# Altium integrated library Altera APEX 20K.IntLib: 93 symbols (part 4 of 14)
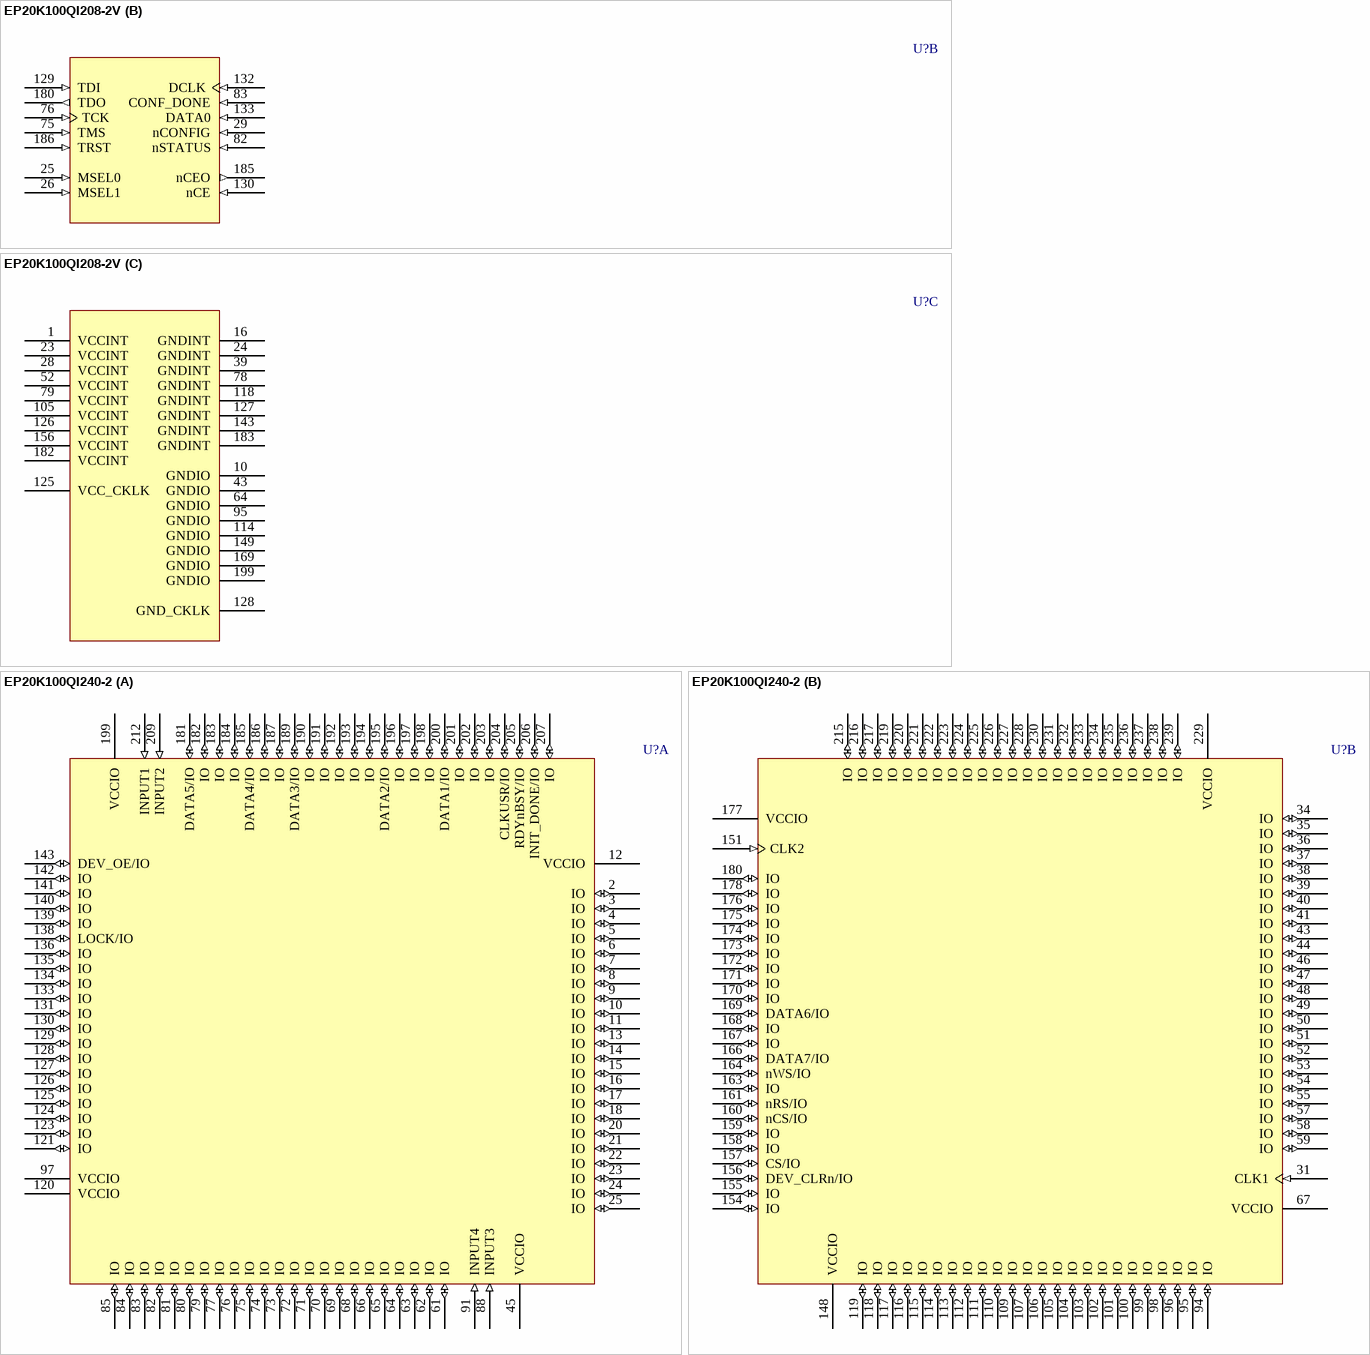
[diagram p205: symbols EP20K100QI208-2V to EP20K100QI240-2]

## EP20K100QI208-2V
designator U?
APEX 20K100  PLD with 5 V tolerant inputs, 208-Pin PQFP, Industrial Grade, Speed Grade 2; ComponentAvailability: Last order accepted - 22-Jul-2005; Published: 17-Jul-2002; LatestRevisionDate: 13-Apr-2006; LatestRevisionNote: IPC-7351 Footprint Added.; DatasheetVersion: ver5.1, Mar-2004; PackageVersion: ver15.4, Dec-2008; PackageReference: PQFP208; Publisher: Altium Limited; PackageDescription: 208-Pin Plastic Quad Flat Pack (PQFP208) - Wire Bond; Code_JEDEC: MS-029-FA-1; ComponentLink1Description: Manufacturer Link; ComponentLink1URL: http://www.altera.com/products/devices/apex/apx-index.html; ComponentLink2Description: Datasheet; ComponentLink2URL: http://www.altera.com/literature/ds/apex.pdf; ComponentLink3Description: Discontinuation Notice; ComponentLink3URL: http://www.altera.com/literature/pcn/pdn0401.pdf
footprint PQFP208_N (Shrink QFP, 208-Leads, Body 28x28mm, Pitch 0.5mm, IPC Medium Density)
footprint PQFP208_L (Shrink QFP, 208-Leads, Body 28x28mm, Pitch 0.5mm, IPC High Density)
footprint PQFP208_M (Shrink QFP, 208-Leads, Body 28x28mm, Pitch 0.5mm, IPC Low Density)
3D model EP20K100-PQFP208 (208-Pin Plastic Quad Flat Pack (PQFP208) - Wire Bond)
part A pins: 2 IO (io), 3 IO (io), 4 IO (io), 5 IO (io), 6 IO (io), 7 IO (io), 8 VCCIO (power), 9 IO (io), 11 IO (io), 12 IO (io), 13 IO (io), 14 IO (io), 15 IO (io), 17 IO (io), 18 IO (io), 19 IO (io), 20 IO (io), 21 IO (io), 22 IO (io), 27 CLK1 (in), 30 IO (io), 31 IO (io), 32 IO (io), 33 IO (io), 34 IO (io), 35 IO (io), 36 IO (io), 37 IO (io), 38 IO (io), 40 IO (io), 41 IO (io), 42 IO (io), 44 IO (io), 45 IO (io), 46 IO (io), 47 IO (io), 48 IO (io), 49 IO (io), 50 IO (io), 51 IO (io), 53 VCCIO (power), 54 IO (io), 55 IO (io), 56 IO (io), 57 IO (io), 58 IO (io), 59 IO (io), 60 IO (io), 61 IO (io), 62 IO (io), 63 IO (io), 65 IO (io), 66 IO (io), 67 IO (io), 68 IO (io), 69 IO (io), 70 IO (io), 71 IO (io), 72 IO (io), 73 IO (io), 74 IO (io), 77 INPUT3 (in), 80 VCCIO (power), 81 INPUT4 (in), 84 IO (io), 85 IO (io), 86 VCCIO (power), 87 IO (io), 88 IO (io), 89 IO (io), 90 IO (io), 91 IO (io), 92 IO (io), 93 IO (io), 94 IO (io), 96 IO (io), 97 IO (io), 98 IO (io), 99 IO (io), 100 IO (io), 101 IO (io), 102 IO (io), 103 IO (io), 104 IO (io), 106 IO (io), 107 IO (io), 108 IO (io), 109 IO (io), 110 IO (io), 111 IO (io), 112 IO (io), 113 IO (io), 115 IO (io), 116 IO (io), 117 IO (io), 119 LOCK/IO (io), 120 IO (io), 121 IO (io), 122 IO (io), 123 IO (io), 124 DEV_OE/IO (io), 131 CLK2 (in), 134 IO (io), 135 IO (io), 136 VCCIO (power), 137 DEV_CLRn/IO (io), 138 CS/IO (io), 139 IO (io), 140 IO (io), 141 nCS/IO (io), 142 nRS/IO (io), 144 IO (io), 145 nWS/IO (io), 146 DATA7/IO (io), 147 IO (io), 148 IO (io), 150 DATA6/IO (io), 151 IO (io), 152 IO (io), 153 IO (io), 154 IO (io), 155 IO (io), 157 DATA5/IO (io), 158 IO (io), 159 IO (io), 160 DATA4/IO (io), 161 IO (io), 162 IO (io), 163 DATA3/IO (io), 164 IO (io), 165 IO (io), 166 IO (io), 167 IO (io), 168 DATA2/IO (io), 170 IO (io), 171 IO (io), 172 VCCIO (power), 173 DATA1/IO (io), 174 IO (io), 175 IO (io), 176 CLKUSR/IO (io), 177 RDYnBSY/IO (io), 178 INIT_DONE/IO (io), 179 IO (io), 181 INPUT2 (in), 184 INPUT1 (in), 187 IO (io), 188 IO (io), 189 VCCIO (power), 190 IO (io), 191 IO (io), 192 IO (io), 193 IO (io), 194 IO (io), 195 IO (io), 196 IO (io), 197 IO (io), 198 IO (io), 200 IO (io), 201 IO (io), 202 IO (io), 203 IO (io), 204 IO (io), 205 IO (io), 206 IO (io), 207 IO (io), 208 VCCIO (power)
part B pins: 25 MSEL0 (in), 26 MSEL1 (in), 29 nCONFIG (in), 75 TMS (in), 76 TCK (in), 82 nSTATUS (in), 83 CONF_DONE (in), 129 TDI (in), 130 nCE (in), 132 DCLK (in), 133 DATA0 (in), 180 TDO (out), 185 nCEO (out), 186 TRST (in)
part C pins: 1 VCCINT (power), 10 GNDIO (power), 16 GNDINT (power), 23 VCCINT (power), 24 GNDINT (power), 28 VCCINT (power), 39 GNDINT (power), 43 GNDIO (power), 52 VCCINT (power), 64 GNDIO (power), 78 GNDINT (power), 79 VCCINT (power), 95 GNDIO (power), 105 VCCINT (power), 114 GNDIO (power), 118 GNDINT (power), 125 VCC_CKLK (power), 126 VCCINT (power), 127 GNDINT (power), 128 GND_CKLK (power), 143 GNDINT (power), 149 GNDIO (power), 156 VCCINT (power), 169 GNDIO (power), 182 VCCINT (power), 183 GNDINT (power), 199 GNDIO (power)

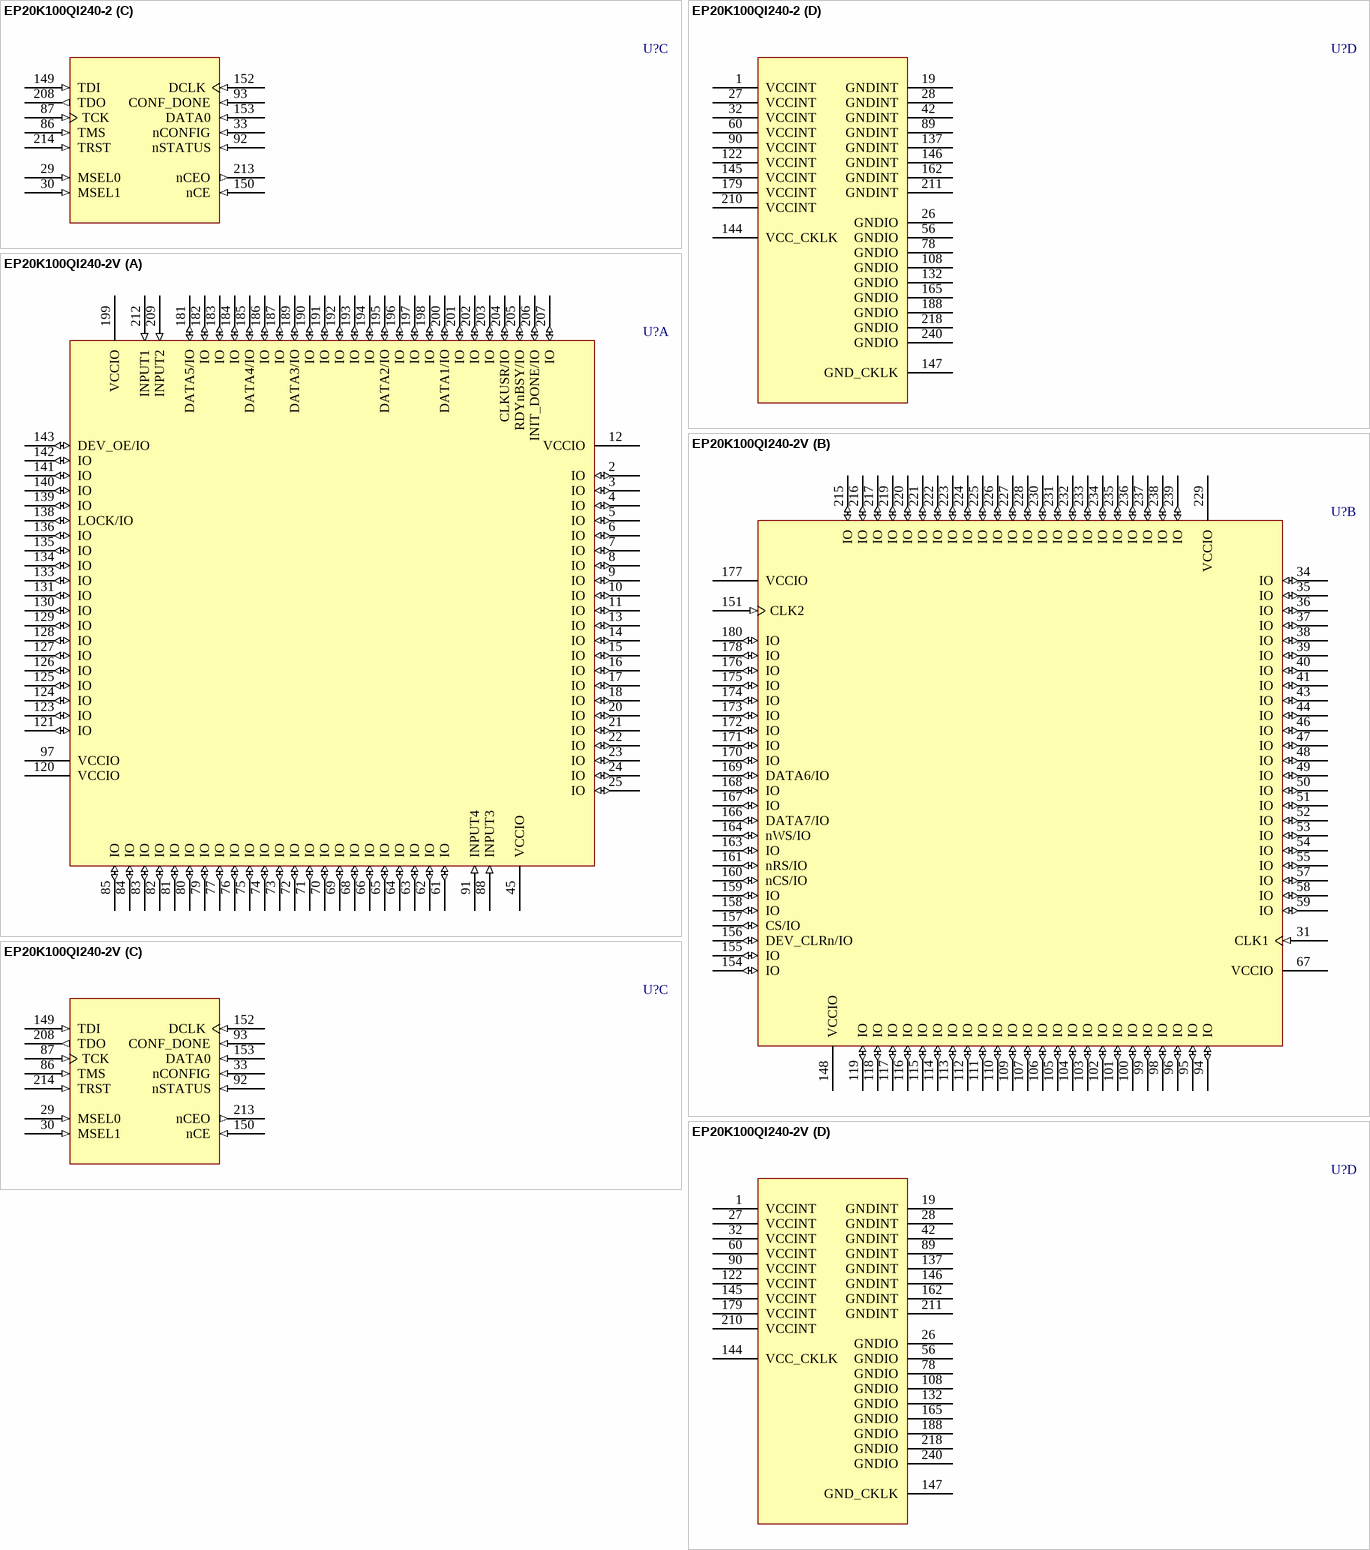
[diagram p41: symbols EP20K100QI240-2 to EP20K100QI240-2V]

## EP20K100QI240-2
designator U?
APEX 20K100 PLD, 240-Pin PQFP, Industrial Grade, Speed Grade 2; Published: 17-Jul-2002; LatestRevisionDate: 13-Apr-2006; LatestRevisionNote: IPC-7351 Footprint Added.; DatasheetVersion: ver5.1, Mar-2004; PackageVersion: ver15.4, Dec-2008; PackageReference: PQFP240; Publisher: Altium Limited; PackageDescription: 240-Pin Plastic Quad Flat Pack (PQFP240) - Wire Bond; Code_JEDEC: MS-029-GA; ComponentLink1Description: Manufacturer Link; ComponentLink1URL: http://www.altera.com/products/devices/apex/apx-index.html; ComponentLink2Description: Datasheet; ComponentLink2URL: http://www.altera.com/literature/ds/apex.pdf
footprint PQFP240_N (Shrink QFP, 240-Leads, Body 32x32mm, Pitch 0.5mm, IPC Medium Density)
footprint PQFP240_L (Shrink QFP, 240-Leads, Body 32x32mm, Pitch 0.5mm, IPC High Density)
footprint PQFP240_M (Shrink QFP, 240-Leads, Body 32x32mm, Pitch 0.5mm, IPC Low Density)
3D model EP20K100-PQFP240 (240-Pin Plastic Quad Flat Pack (PQFP240) - Wire Bond)
part A pins: 2 IO (io), 3 IO (io), 4 IO (io), 5 IO (io), 6 IO (io), 7 IO (io), 8 IO (io), 9 IO (io), 10 IO (io), 11 IO (io), 12 VCCIO (power), 13 IO (io), 14 IO (io), 15 IO (io), 16 IO (io), 17 IO (io), 18 IO (io), 20 IO (io), 21 IO (io), 22 IO (io), 23 IO (io), 24 IO (io), 25 IO (io), 45 VCCIO (power), 61 IO (io), 62 IO (io), 63 IO (io), 64 IO (io), 65 IO (io), 66 IO (io), 68 IO (io), 69 IO (io), 70 IO (io), 71 IO (io), 72 IO (io), 73 IO (io), 74 IO (io), 75 IO (io), 76 IO (io), 77 IO (io), 79 IO (io), 80 IO (io), 81 IO (io), 82 IO (io), 83 IO (io), 84 IO (io), 85 IO (io), 88 INPUT3 (in), 91 INPUT4 (in), 97 VCCIO (power), 120 VCCIO (power), 121 IO (io), 123 IO (io), 124 IO (io), 125 IO (io), 126 IO (io), 127 IO (io), 128 IO (io), 129 IO (io), 130 IO (io), 131 IO (io), 133 IO (io), 134 IO (io), 135 IO (io), 136 IO (io), 138 LOCK/IO (io), 139 IO (io), 140 IO (io), 141 IO (io), 142 IO (io), 143 DEV_OE/IO (io), 181 DATA5/IO (io), 182 IO (io), 183 IO (io), 184 IO (io), 185 DATA4/IO (io), 186 IO (io), 187 IO (io), 189 DATA3/IO (io), 190 IO (io), 191 IO (io), 192 IO (io), 193 IO (io), 194 IO (io), 195 DATA2/IO (io), 196 IO (io), 197 IO (io), 198 IO (io), 199 VCCIO (power), 200 DATA1/IO (io), 201 IO (io), 202 IO (io), 203 IO (io), 204 CLKUSR/IO (io), 205 RDYnBSY/IO (io), 206 INIT_DONE/IO (io), 207 IO (io), 209 INPUT2 (in), 212 INPUT1 (in)
part B pins: 31 CLK1 (in), 34 IO (io), 35 IO (io), 36 IO (io), 37 IO (io), 38 IO (io), 39 IO (io), 40 IO (io), 41 IO (io), 43 IO (io), 44 IO (io), 46 IO (io), 47 IO (io), 48 IO (io), 49 IO (io), 50 IO (io), 51 IO (io), 52 IO (io), 53 IO (io), 54 IO (io), 55 IO (io), 57 IO (io), 58 IO (io), 59 IO (io), 67 VCCIO (power), 94 IO (io), 95 IO (io), 96 IO (io), 98 IO (io), 99 IO (io), 100 IO (io), 101 IO (io), 102 IO (io), 103 IO (io), 104 IO (io), 105 IO (io), 106 IO (io), 107 IO (io), 109 IO (io), 110 IO (io), 111 IO (io), 112 IO (io), 113 IO (io), 114 IO (io), 115 IO (io), 116 IO (io), 117 IO (io), 118 IO (io), 119 IO (io), 148 VCCIO (power), 151 CLK2 (in), 154 IO (io), 155 IO (io), 156 DEV_CLRn/IO (io), 157 CS/IO (io), 158 IO (io), 159 IO (io), 160 nCS/IO (io), 161 nRS/IO (io), 163 IO (io), 164 nWS/IO (io), 166 DATA7/IO (io), 167 IO (io), 168 IO (io), 169 DATA6/IO (io), 170 IO (io), 171 IO (io), 172 IO (io), 173 IO (io), 174 IO (io), 175 IO (io), 176 IO (io), 177 VCCIO (power), 178 IO (io), 180 IO (io), 215 IO (io), 216 IO (io), 217 IO (io), 219 IO (io), 220 IO (io), 221 IO (io), 222 IO (io), 223 IO (io), 224 IO (io), 225 IO (io), 226 IO (io), 227 IO (io), 228 IO (io), 229 VCCIO (power), 230 IO (io), 231 IO (io), 232 IO (io), 233 IO (io), 234 IO (io), 235 IO (io), 236 IO (io), 237 IO (io), 238 IO (io), 239 IO (io)
part C pins: 29 MSEL0 (in), 30 MSEL1 (in), 33 nCONFIG (in), 86 TMS (in), 87 TCK (in), 92 nSTATUS (in), 93 CONF_DONE (in), 149 TDI (in), 150 nCE (in), 152 DCLK (in), 153 DATA0 (in), 208 TDO (out), 213 nCEO (out), 214 TRST (in)
part D pins: 1 VCCINT (power), 19 GNDINT (power), 26 GNDIO (power), 27 VCCINT (power), 28 GNDINT (power), 32 VCCINT (power), 42 GNDINT (power), 56 GNDIO (power), 60 VCCINT (power), 78 GNDIO (power), 89 GNDINT (power), 90 VCCINT (power), 108 GNDIO (power), 122 VCCINT (power), 132 GNDIO (power), 137 GNDINT (power), 144 VCC_CKLK (power), 145 VCCINT (power), 146 GNDINT (power), 147 GND_CKLK (power), 162 GNDINT (power), 165 GNDIO (power), 179 VCCINT (power), 188 GNDIO (power), 210 VCCINT (power), 211 GNDINT (power), 218 GNDIO (power), 240 GNDIO (power)

## EP20K100QI240-2V
designator U?
APEX 20K100  PLD with 5 V tolerant inputs, 240-Pin PQFP, Industrial Grade, Speed Grade 2; ComponentAvailability: Last order accepted - 22-Jul-2005; Published: 17-Jul-2002; LatestRevisionDate: 13-Apr-2006; LatestRevisionNote: IPC-7351 Footprint Added.; DatasheetVersion: ver5.1, Mar-2004; PackageVersion: ver15.4, Dec-2008; PackageReference: PQFP240; Publisher: Altium Limited; PackageDescription: 240-Pin Plastic Quad Flat Pack (PQFP240) - Wire Bond; Code_JEDEC: MS-029-GA; ComponentLink1Description: Manufacturer Link; ComponentLink1URL: http://www.altera.com/products/devices/apex/apx-index.html; ComponentLink2Description: Datasheet; ComponentLink2URL: http://www.altera.com/literature/ds/apex.pdf; ComponentLink3Description: Discontinuation Notice; ComponentLink3URL: http://www.altera.com/literature/pcn/pdn0401.pdf
footprint PQFP240_N (Shrink QFP, 240-Leads, Body 32x32mm, Pitch 0.5mm, IPC Medium Density)
footprint PQFP240_L (Shrink QFP, 240-Leads, Body 32x32mm, Pitch 0.5mm, IPC High Density)
footprint PQFP240_M (Shrink QFP, 240-Leads, Body 32x32mm, Pitch 0.5mm, IPC Low Density)
3D model EP20K100-PQFP240 (240-Pin Plastic Quad Flat Pack (PQFP240) - Wire Bond)
part A pins: 2 IO (io), 3 IO (io), 4 IO (io), 5 IO (io), 6 IO (io), 7 IO (io), 8 IO (io), 9 IO (io), 10 IO (io), 11 IO (io), 12 VCCIO (power), 13 IO (io), 14 IO (io), 15 IO (io), 16 IO (io), 17 IO (io), 18 IO (io), 20 IO (io), 21 IO (io), 22 IO (io), 23 IO (io), 24 IO (io), 25 IO (io), 45 VCCIO (power), 61 IO (io), 62 IO (io), 63 IO (io), 64 IO (io), 65 IO (io), 66 IO (io), 68 IO (io), 69 IO (io), 70 IO (io), 71 IO (io), 72 IO (io), 73 IO (io), 74 IO (io), 75 IO (io), 76 IO (io), 77 IO (io), 79 IO (io), 80 IO (io), 81 IO (io), 82 IO (io), 83 IO (io), 84 IO (io), 85 IO (io), 88 INPUT3 (in), 91 INPUT4 (in), 97 VCCIO (power), 120 VCCIO (power), 121 IO (io), 123 IO (io), 124 IO (io), 125 IO (io), 126 IO (io), 127 IO (io), 128 IO (io), 129 IO (io), 130 IO (io), 131 IO (io), 133 IO (io), 134 IO (io), 135 IO (io), 136 IO (io), 138 LOCK/IO (io), 139 IO (io), 140 IO (io), 141 IO (io), 142 IO (io), 143 DEV_OE/IO (io), 181 DATA5/IO (io), 182 IO (io), 183 IO (io), 184 IO (io), 185 DATA4/IO (io), 186 IO (io), 187 IO (io), 189 DATA3/IO (io), 190 IO (io), 191 IO (io), 192 IO (io), 193 IO (io), 194 IO (io), 195 DATA2/IO (io), 196 IO (io), 197 IO (io), 198 IO (io), 199 VCCIO (power), 200 DATA1/IO (io), 201 IO (io), 202 IO (io), 203 IO (io), 204 CLKUSR/IO (io), 205 RDYnBSY/IO (io), 206 INIT_DONE/IO (io), 207 IO (io), 209 INPUT2 (in), 212 INPUT1 (in)
part B pins: 31 CLK1 (in), 34 IO (io), 35 IO (io), 36 IO (io), 37 IO (io), 38 IO (io), 39 IO (io), 40 IO (io), 41 IO (io), 43 IO (io), 44 IO (io), 46 IO (io), 47 IO (io), 48 IO (io), 49 IO (io), 50 IO (io), 51 IO (io), 52 IO (io), 53 IO (io), 54 IO (io), 55 IO (io), 57 IO (io), 58 IO (io), 59 IO (io), 67 VCCIO (power), 94 IO (io), 95 IO (io), 96 IO (io), 98 IO (io), 99 IO (io), 100 IO (io), 101 IO (io), 102 IO (io), 103 IO (io), 104 IO (io), 105 IO (io), 106 IO (io), 107 IO (io), 109 IO (io), 110 IO (io), 111 IO (io), 112 IO (io), 113 IO (io), 114 IO (io), 115 IO (io), 116 IO (io), 117 IO (io), 118 IO (io), 119 IO (io), 148 VCCIO (power), 151 CLK2 (in), 154 IO (io), 155 IO (io), 156 DEV_CLRn/IO (io), 157 CS/IO (io), 158 IO (io), 159 IO (io), 160 nCS/IO (io), 161 nRS/IO (io), 163 IO (io), 164 nWS/IO (io), 166 DATA7/IO (io), 167 IO (io), 168 IO (io), 169 DATA6/IO (io), 170 IO (io), 171 IO (io), 172 IO (io), 173 IO (io), 174 IO (io), 175 IO (io), 176 IO (io), 177 VCCIO (power), 178 IO (io), 180 IO (io), 215 IO (io), 216 IO (io), 217 IO (io), 219 IO (io), 220 IO (io), 221 IO (io), 222 IO (io), 223 IO (io), 224 IO (io), 225 IO (io), 226 IO (io), 227 IO (io), 228 IO (io), 229 VCCIO (power), 230 IO (io), 231 IO (io), 232 IO (io), 233 IO (io), 234 IO (io), 235 IO (io), 236 IO (io), 237 IO (io), 238 IO (io), 239 IO (io)
part C pins: 29 MSEL0 (in), 30 MSEL1 (in), 33 nCONFIG (in), 86 TMS (in), 87 TCK (in), 92 nSTATUS (in), 93 CONF_DONE (in), 149 TDI (in), 150 nCE (in), 152 DCLK (in), 153 DATA0 (in), 208 TDO (out), 213 nCEO (out), 214 TRST (in)
part D pins: 1 VCCINT (power), 19 GNDINT (power), 26 GNDIO (power), 27 VCCINT (power), 28 GNDINT (power), 32 VCCINT (power), 42 GNDINT (power), 56 GNDIO (power), 60 VCCINT (power), 78 GNDIO (power), 89 GNDINT (power), 90 VCCINT (power), 108 GNDIO (power), 122 VCCINT (power), 132 GNDIO (power), 137 GNDINT (power), 144 VCC_CKLK (power), 145 VCCINT (power), 146 GNDINT (power), 147 GND_CKLK (power), 162 GNDINT (power), 165 GNDIO (power), 179 VCCINT (power), 188 GNDIO (power), 210 VCCINT (power), 211 GNDINT (power), 218 GNDIO (power), 240 GNDIO (power)

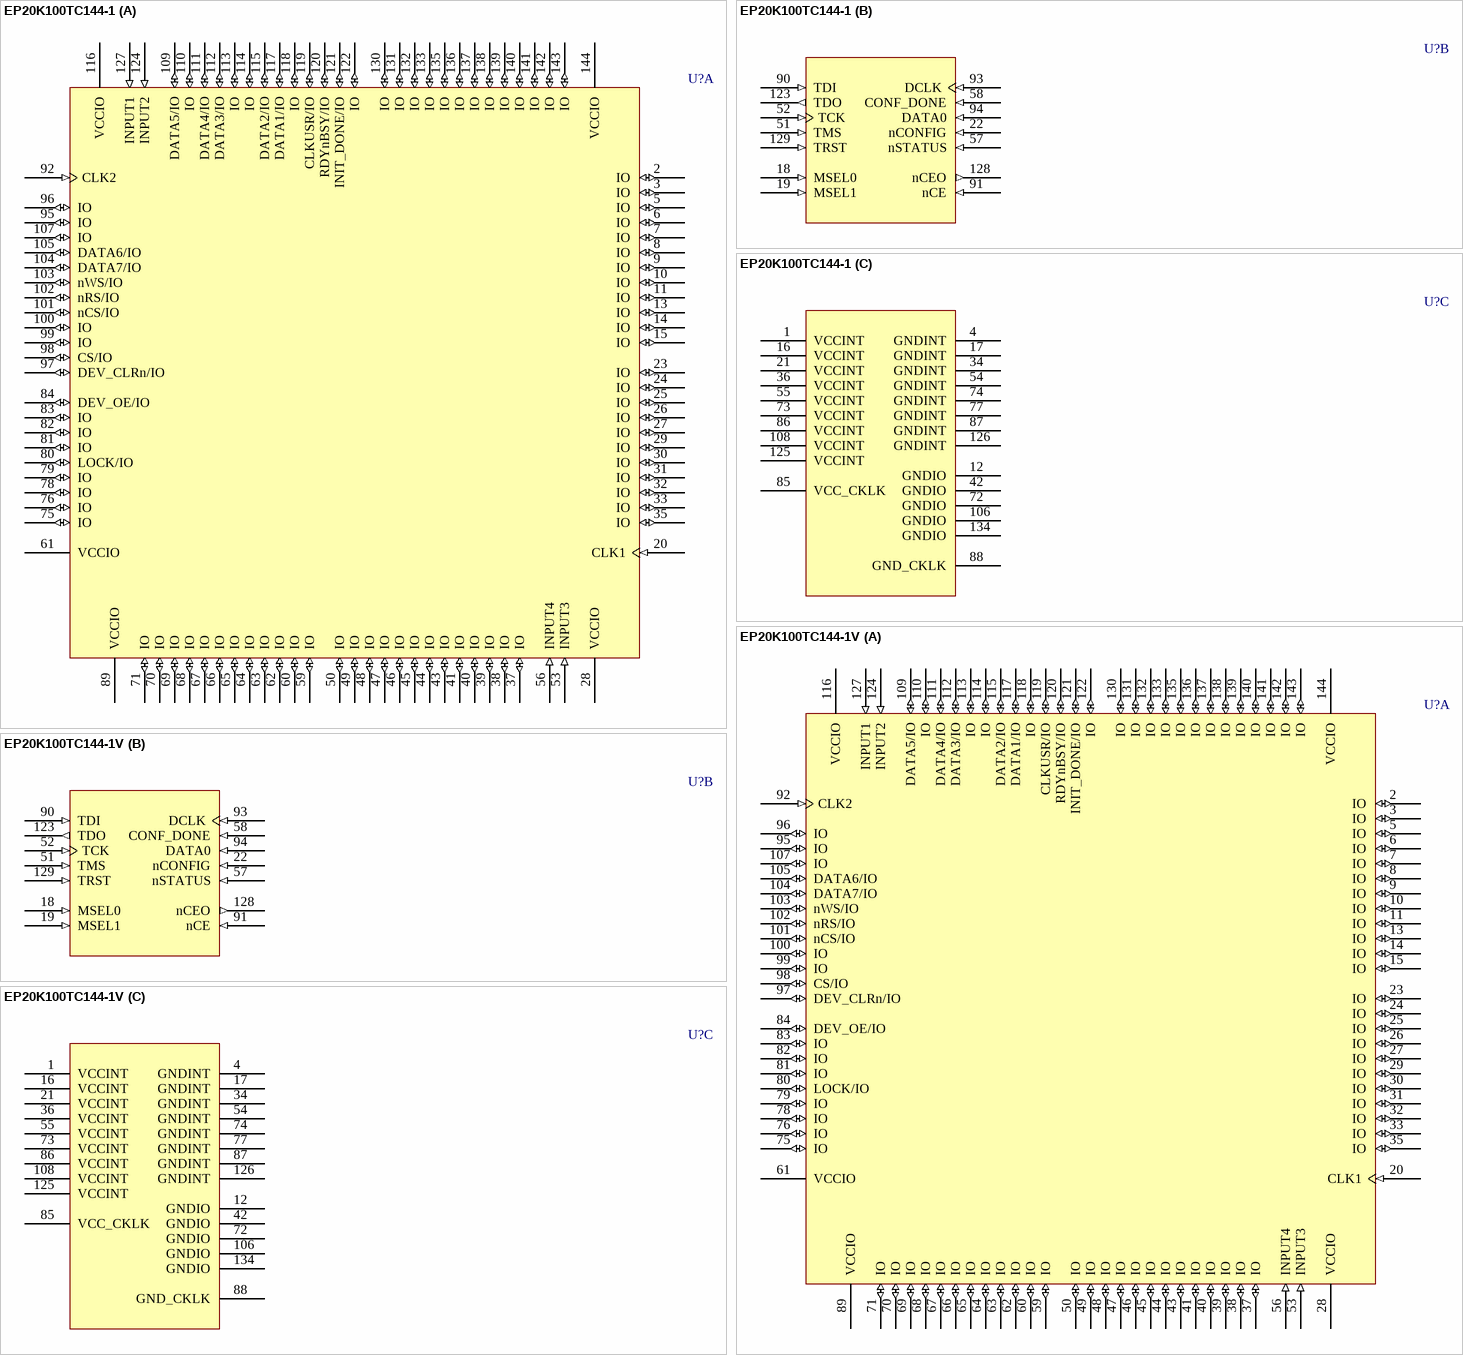
[diagram p42: symbols EP20K100TC144-1 to EP20K100TC144-1V]

## EP20K100TC144-1
designator U?
APEX 20K100 PLD, 144-Pin TQFP, Commercial Grade, Speed Grade 1; Published: 17-Jul-2002; LatestRevisionDate: 13-Apr-2006; LatestRevisionNote: IPC-7351 Footprint Added.; DatasheetVersion: ver5.1, Mar-2004; PackageVersion: ver15.4, Dec-2008; PackageReference: TQFP144; Publisher: Altium Limited; PackageDescription: 144-Pin Plastic Thin Quad Flat Pack (TQFP144) - Wire Bond; Code_JEDEC: MS-026-BFB; ComponentLink1Description: Manufacturer Link; ComponentLink1URL: http://www.altera.com/products/devices/apex/apx-index.html; ComponentLink2Description: Datasheet; ComponentLink2URL: http://www.altera.com/literature/ds/apex.pdf
footprint TQFP144_N (Thin QFP, 144-Leads, Body 20x20mm, Pitch 0.5mm, IPC Medium Density)
footprint TQFP144_L (Thin QFP, 144-Leads, Body 20x20mm, Pitch 0.5mm, IPC High Density)
footprint TQFP144_M (Thin QFP, 144-Leads, Body 20x20mm, Pitch 0.5mm, IPC Low Density)
3D model EP20K100-TQFP144 (144-Pin Plastic Thin Quad Flat Pack (TQFP144) - Wire Bond)
part A pins: 2 IO (io), 3 IO (io), 5 IO (io), 6 IO (io), 7 IO (io), 8 IO (io), 9 IO (io), 10 IO (io), 11 IO (io), 13 IO (io), 14 IO (io), 15 IO (io), 20 CLK1 (in), 23 IO (io), 24 IO (io), 25 IO (io), 26 IO (io), 27 IO (io), 28 VCCIO (power), 29 IO (io), 30 IO (io), 31 IO (io), 32 IO (io), 33 IO (io), 35 IO (io), 37 IO (io), 38 IO (io), 39 IO (io), 40 IO (io), 41 IO (io), 43 IO (io), 44 IO (io), 45 IO (io), 46 IO (io), 47 IO (io), 48 IO (io), 49 IO (io), 50 IO (io), 53 INPUT3 (in), 56 INPUT4 (in), 59 IO (io), 60 IO (io), 61 VCCIO (power), 62 IO (io), 63 IO (io), 64 IO (io), 65 IO (io), 66 IO (io), 67 IO (io), 68 IO (io), 69 IO (io), 70 IO (io), 71 IO (io), 75 IO (io), 76 IO (io), 78 IO (io), 79 IO (io), 80 LOCK/IO (io), 81 IO (io), 82 IO (io), 83 IO (io), 84 DEV_OE/IO (io), 89 VCCIO (power), 92 CLK2 (in), 95 IO (io), 96 IO (io), 97 DEV_CLRn/IO (io), 98 CS/IO (io), 99 IO (io), 100 IO (io), 101 nCS/IO (io), 102 nRS/IO (io), 103 nWS/IO (io), 104 DATA7/IO (io), 105 DATA6/IO (io), 107 IO (io), 109 DATA5/IO (io), 110 IO (io), 111 DATA4/IO (io), 112 DATA3/IO (io), 113 IO (io), 114 IO (io), 115 DATA2/IO (io), 116 VCCIO (power), 117 DATA1/IO (io), 118 IO (io), 119 CLKUSR/IO (io), 120 RDYnBSY/IO (io), 121 INIT_DONE/IO (io), 122 IO (io), 124 INPUT2 (in), 127 INPUT1 (in), 130 IO (io), 131 IO (io), 132 IO (io), 133 IO (io), 135 IO (io), 136 IO (io), 137 IO (io), 138 IO (io), 139 IO (io), 140 IO (io), 141 IO (io), 142 IO (io), 143 IO (io), 144 VCCIO (power)
part B pins: 18 MSEL0 (in), 19 MSEL1 (in), 22 nCONFIG (in), 51 TMS (in), 52 TCK (in), 57 nSTATUS (in), 58 CONF_DONE (in), 90 TDI (in), 91 nCE (in), 93 DCLK (in), 94 DATA0 (in), 123 TDO (out), 128 nCEO (out), 129 TRST (in)
part C pins: 1 VCCINT (power), 4 GNDINT (power), 12 GNDIO (power), 16 VCCINT (power), 17 GNDINT (power), 21 VCCINT (power), 34 GNDINT (power), 36 VCCINT (power), 42 GNDIO (power), 54 GNDINT (power), 55 VCCINT (power), 72 GNDIO (power), 73 VCCINT (power), 74 GNDINT (power), 77 GNDINT (power), 85 VCC_CKLK (power), 86 VCCINT (power), 87 GNDINT (power), 88 GND_CKLK (power), 106 GNDIO (power), 108 VCCINT (power), 125 VCCINT (power), 126 GNDINT (power), 134 GNDIO (power)

## EP20K100TC144-1V
designator U?
APEX 20K100 PLD with 5 V tolerant inputs, 144-Pin TQFP, Commercial Grade, Speed Grade 1; ComponentAvailability: Last order accepted - 22-Jul-2005; Published: 17-Jul-2002; LatestRevisionDate: 13-Apr-2006; LatestRevisionNote: IPC-7351 Footprint Added.; DatasheetVersion: ver5.1, Mar-2004; PackageVersion: ver15.4, Dec-2008; PackageReference: TQFP144; Publisher: Altium Limited; PackageDescription: 144-Pin Plastic Thin Quad Flat Pack (TQFP144) - Wire Bond; Code_JEDEC: MS-026-BFB; ComponentLink1Description: Manufacturer Link; ComponentLink1URL: http://www.altera.com/products/devices/apex/apx-index.html; ComponentLink2Description: Datasheet; ComponentLink2URL: http://www.altera.com/literature/ds/apex.pdf; ComponentLink3Description: Discontinuation Notice; ComponentLink3URL: http://www.altera.com/literature/pcn/pdn0401.pdf
footprint TQFP144_N (Thin QFP, 144-Leads, Body 20x20mm, Pitch 0.5mm, IPC Medium Density)
footprint TQFP144_L (Thin QFP, 144-Leads, Body 20x20mm, Pitch 0.5mm, IPC High Density)
footprint TQFP144_M (Thin QFP, 144-Leads, Body 20x20mm, Pitch 0.5mm, IPC Low Density)
3D model EP20K100-TQFP144 (144-Pin Plastic Thin Quad Flat Pack (TQFP144) - Wire Bond)
part A pins: 2 IO (io), 3 IO (io), 5 IO (io), 6 IO (io), 7 IO (io), 8 IO (io), 9 IO (io), 10 IO (io), 11 IO (io), 13 IO (io), 14 IO (io), 15 IO (io), 20 CLK1 (in), 23 IO (io), 24 IO (io), 25 IO (io), 26 IO (io), 27 IO (io), 28 VCCIO (power), 29 IO (io), 30 IO (io), 31 IO (io), 32 IO (io), 33 IO (io), 35 IO (io), 37 IO (io), 38 IO (io), 39 IO (io), 40 IO (io), 41 IO (io), 43 IO (io), 44 IO (io), 45 IO (io), 46 IO (io), 47 IO (io), 48 IO (io), 49 IO (io), 50 IO (io), 53 INPUT3 (in), 56 INPUT4 (in), 59 IO (io), 60 IO (io), 61 VCCIO (power), 62 IO (io), 63 IO (io), 64 IO (io), 65 IO (io), 66 IO (io), 67 IO (io), 68 IO (io), 69 IO (io), 70 IO (io), 71 IO (io), 75 IO (io), 76 IO (io), 78 IO (io), 79 IO (io), 80 LOCK/IO (io), 81 IO (io), 82 IO (io), 83 IO (io), 84 DEV_OE/IO (io), 89 VCCIO (power), 92 CLK2 (in), 95 IO (io), 96 IO (io), 97 DEV_CLRn/IO (io), 98 CS/IO (io), 99 IO (io), 100 IO (io), 101 nCS/IO (io), 102 nRS/IO (io), 103 nWS/IO (io), 104 DATA7/IO (io), 105 DATA6/IO (io), 107 IO (io), 109 DATA5/IO (io), 110 IO (io), 111 DATA4/IO (io), 112 DATA3/IO (io), 113 IO (io), 114 IO (io), 115 DATA2/IO (io), 116 VCCIO (power), 117 DATA1/IO (io), 118 IO (io), 119 CLKUSR/IO (io), 120 RDYnBSY/IO (io), 121 INIT_DONE/IO (io), 122 IO (io), 124 INPUT2 (in), 127 INPUT1 (in), 130 IO (io), 131 IO (io), 132 IO (io), 133 IO (io), 135 IO (io), 136 IO (io), 137 IO (io), 138 IO (io), 139 IO (io), 140 IO (io), 141 IO (io), 142 IO (io), 143 IO (io), 144 VCCIO (power)
part B pins: 18 MSEL0 (in), 19 MSEL1 (in), 22 nCONFIG (in), 51 TMS (in), 52 TCK (in), 57 nSTATUS (in), 58 CONF_DONE (in), 90 TDI (in), 91 nCE (in), 93 DCLK (in), 94 DATA0 (in), 123 TDO (out), 128 nCEO (out), 129 TRST (in)
part C pins: 1 VCCINT (power), 4 GNDINT (power), 12 GNDIO (power), 16 VCCINT (power), 17 GNDINT (power), 21 VCCINT (power), 34 GNDINT (power), 36 VCCINT (power), 42 GNDIO (power), 54 GNDINT (power), 55 VCCINT (power), 72 GNDIO (power), 73 VCCINT (power), 74 GNDINT (power), 77 GNDINT (power), 85 VCC_CKLK (power), 86 VCCINT (power), 87 GNDINT (power), 88 GND_CKLK (power), 106 GNDIO (power), 108 VCCINT (power), 125 VCCINT (power), 126 GNDINT (power), 134 GNDIO (power)

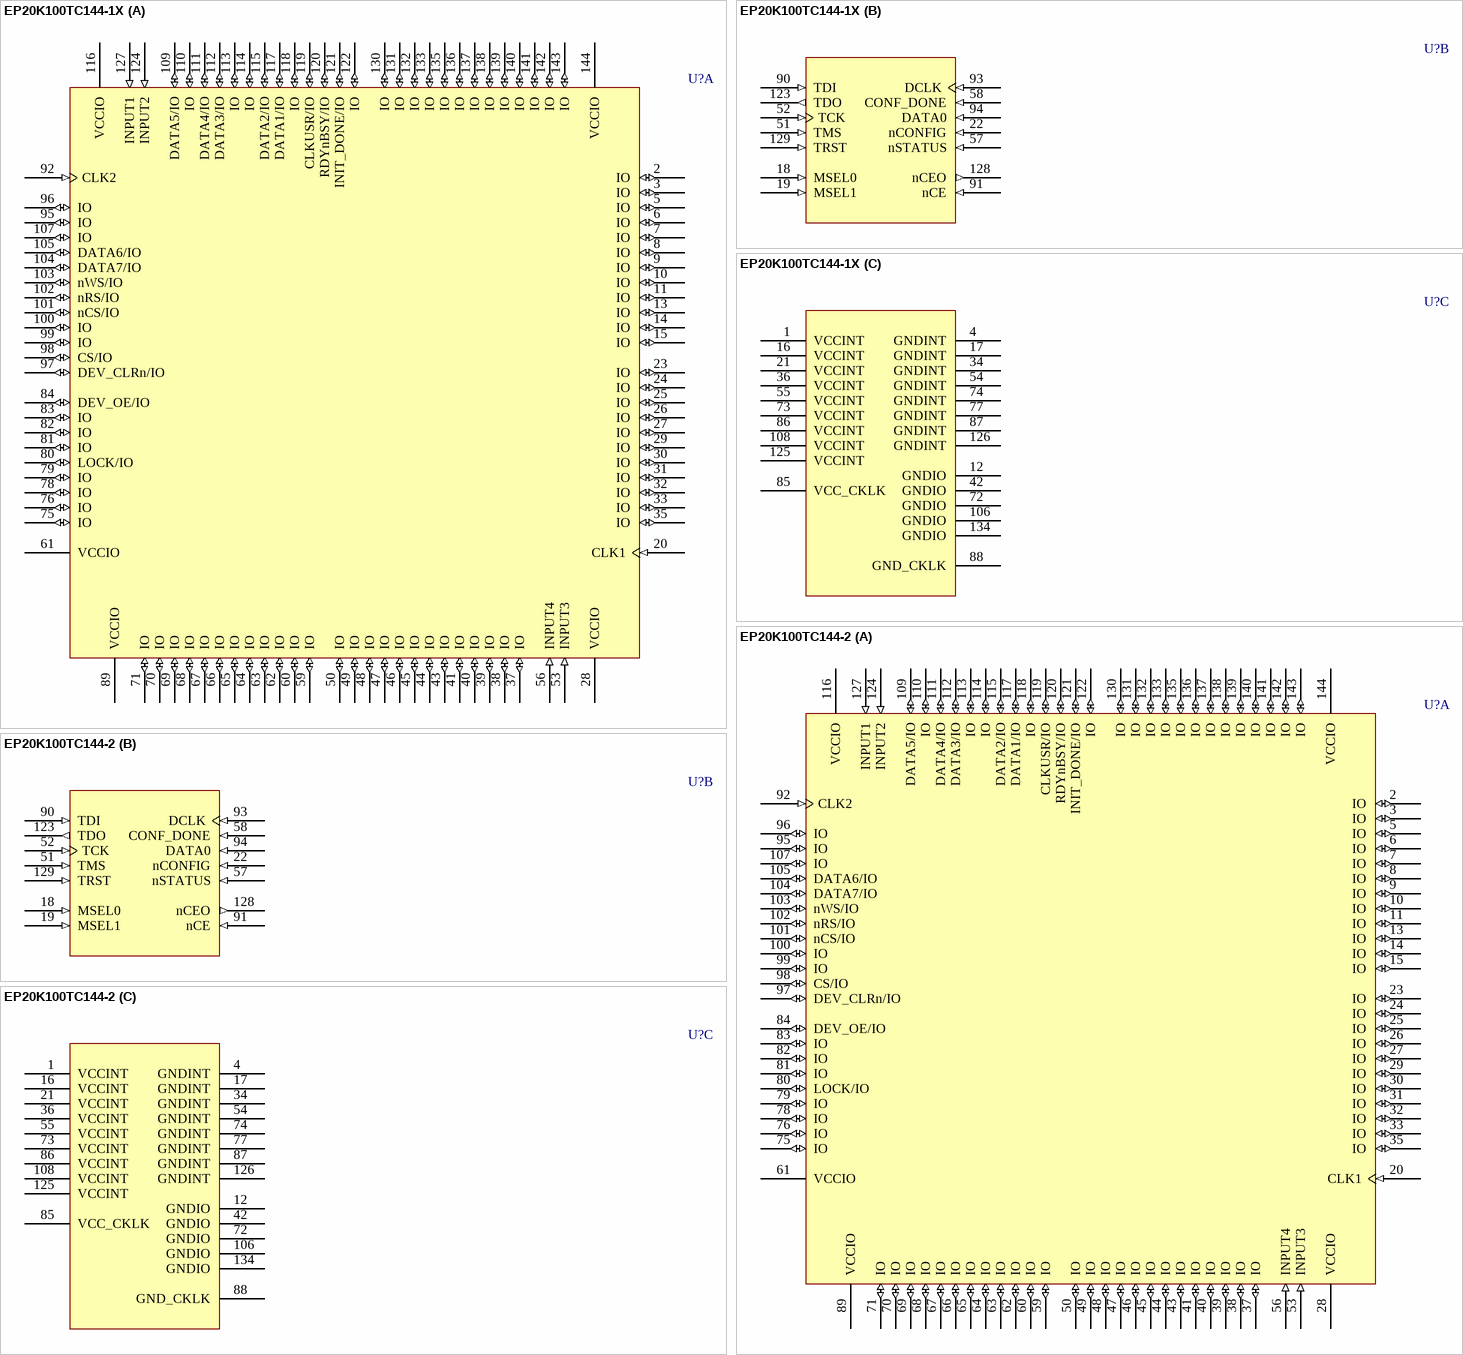
[diagram p43: symbols EP20K100TC144-1X to EP20K100TC144-2]

## EP20K100TC144-1X
designator U?
APEX 20K100 PLD with PLLs, 144-Pin TQFP, Commercial Grade, Speed Grade 1; Published: 17-Jul-2002; LatestRevisionDate: 13-Apr-2006; LatestRevisionNote: IPC-7351 Footprint Added.; DatasheetVersion: ver5.1, Mar-2004; PackageVersion: ver15.4, Dec-2008; PackageReference: TQFP144; Publisher: Altium Limited; PackageDescription: 144-Pin Plastic Thin Quad Flat Pack (TQFP144) - Wire Bond; Code_JEDEC: MS-026-BFB; ComponentLink1Description: Manufacturer Link; ComponentLink1URL: http://www.altera.com/products/devices/apex/apx-index.html; ComponentLink2Description: Datasheet; ComponentLink2URL: http://www.altera.com/literature/ds/apex.pdf
footprint TQFP144_N (Thin QFP, 144-Leads, Body 20x20mm, Pitch 0.5mm, IPC Medium Density)
footprint TQFP144_L (Thin QFP, 144-Leads, Body 20x20mm, Pitch 0.5mm, IPC High Density)
footprint TQFP144_M (Thin QFP, 144-Leads, Body 20x20mm, Pitch 0.5mm, IPC Low Density)
3D model EP20K100-TQFP144 (144-Pin Plastic Thin Quad Flat Pack (TQFP144) - Wire Bond)
part A pins: 2 IO (io), 3 IO (io), 5 IO (io), 6 IO (io), 7 IO (io), 8 IO (io), 9 IO (io), 10 IO (io), 11 IO (io), 13 IO (io), 14 IO (io), 15 IO (io), 20 CLK1 (in), 23 IO (io), 24 IO (io), 25 IO (io), 26 IO (io), 27 IO (io), 28 VCCIO (power), 29 IO (io), 30 IO (io), 31 IO (io), 32 IO (io), 33 IO (io), 35 IO (io), 37 IO (io), 38 IO (io), 39 IO (io), 40 IO (io), 41 IO (io), 43 IO (io), 44 IO (io), 45 IO (io), 46 IO (io), 47 IO (io), 48 IO (io), 49 IO (io), 50 IO (io), 53 INPUT3 (in), 56 INPUT4 (in), 59 IO (io), 60 IO (io), 61 VCCIO (power), 62 IO (io), 63 IO (io), 64 IO (io), 65 IO (io), 66 IO (io), 67 IO (io), 68 IO (io), 69 IO (io), 70 IO (io), 71 IO (io), 75 IO (io), 76 IO (io), 78 IO (io), 79 IO (io), 80 LOCK/IO (io), 81 IO (io), 82 IO (io), 83 IO (io), 84 DEV_OE/IO (io), 89 VCCIO (power), 92 CLK2 (in), 95 IO (io), 96 IO (io), 97 DEV_CLRn/IO (io), 98 CS/IO (io), 99 IO (io), 100 IO (io), 101 nCS/IO (io), 102 nRS/IO (io), 103 nWS/IO (io), 104 DATA7/IO (io), 105 DATA6/IO (io), 107 IO (io), 109 DATA5/IO (io), 110 IO (io), 111 DATA4/IO (io), 112 DATA3/IO (io), 113 IO (io), 114 IO (io), 115 DATA2/IO (io), 116 VCCIO (power), 117 DATA1/IO (io), 118 IO (io), 119 CLKUSR/IO (io), 120 RDYnBSY/IO (io), 121 INIT_DONE/IO (io), 122 IO (io), 124 INPUT2 (in), 127 INPUT1 (in), 130 IO (io), 131 IO (io), 132 IO (io), 133 IO (io), 135 IO (io), 136 IO (io), 137 IO (io), 138 IO (io), 139 IO (io), 140 IO (io), 141 IO (io), 142 IO (io), 143 IO (io), 144 VCCIO (power)
part B pins: 18 MSEL0 (in), 19 MSEL1 (in), 22 nCONFIG (in), 51 TMS (in), 52 TCK (in), 57 nSTATUS (in), 58 CONF_DONE (in), 90 TDI (in), 91 nCE (in), 93 DCLK (in), 94 DATA0 (in), 123 TDO (out), 128 nCEO (out), 129 TRST (in)
part C pins: 1 VCCINT (power), 4 GNDINT (power), 12 GNDIO (power), 16 VCCINT (power), 17 GNDINT (power), 21 VCCINT (power), 34 GNDINT (power), 36 VCCINT (power), 42 GNDIO (power), 54 GNDINT (power), 55 VCCINT (power), 72 GNDIO (power), 73 VCCINT (power), 74 GNDINT (power), 77 GNDINT (power), 85 VCC_CKLK (power), 86 VCCINT (power), 87 GNDINT (power), 88 GND_CKLK (power), 106 GNDIO (power), 108 VCCINT (power), 125 VCCINT (power), 126 GNDINT (power), 134 GNDIO (power)

## EP20K100TC144-2
designator U?
APEX 20K100 PLD, 144-Pin TQFP, Commercial Grade, Speed Grade 2; Published: 17-Jul-2002; LatestRevisionDate: 13-Apr-2006; LatestRevisionNote: IPC-7351 Footprint Added.; DatasheetVersion: ver5.1, Mar-2004; PackageVersion: ver15.4, Dec-2008; PackageReference: TQFP144; Publisher: Altium Limited; PackageDescription: 144-Pin Plastic Thin Quad Flat Pack (TQFP144) - Wire Bond; Code_JEDEC: MS-026-BFB; ComponentLink1Description: Manufacturer Link; ComponentLink1URL: http://www.altera.com/products/devices/apex/apx-index.html; ComponentLink2Description: Datasheet; ComponentLink2URL: http://www.altera.com/literature/ds/apex.pdf
footprint TQFP144_N (Thin QFP, 144-Leads, Body 20x20mm, Pitch 0.5mm, IPC Medium Density)
footprint TQFP144_L (Thin QFP, 144-Leads, Body 20x20mm, Pitch 0.5mm, IPC High Density)
footprint TQFP144_M (Thin QFP, 144-Leads, Body 20x20mm, Pitch 0.5mm, IPC Low Density)
3D model EP20K100-TQFP144 (144-Pin Plastic Thin Quad Flat Pack (TQFP144) - Wire Bond)
part A pins: 2 IO (io), 3 IO (io), 5 IO (io), 6 IO (io), 7 IO (io), 8 IO (io), 9 IO (io), 10 IO (io), 11 IO (io), 13 IO (io), 14 IO (io), 15 IO (io), 20 CLK1 (in), 23 IO (io), 24 IO (io), 25 IO (io), 26 IO (io), 27 IO (io), 28 VCCIO (power), 29 IO (io), 30 IO (io), 31 IO (io), 32 IO (io), 33 IO (io), 35 IO (io), 37 IO (io), 38 IO (io), 39 IO (io), 40 IO (io), 41 IO (io), 43 IO (io), 44 IO (io), 45 IO (io), 46 IO (io), 47 IO (io), 48 IO (io), 49 IO (io), 50 IO (io), 53 INPUT3 (in), 56 INPUT4 (in), 59 IO (io), 60 IO (io), 61 VCCIO (power), 62 IO (io), 63 IO (io), 64 IO (io), 65 IO (io), 66 IO (io), 67 IO (io), 68 IO (io), 69 IO (io), 70 IO (io), 71 IO (io), 75 IO (io), 76 IO (io), 78 IO (io), 79 IO (io), 80 LOCK/IO (io), 81 IO (io), 82 IO (io), 83 IO (io), 84 DEV_OE/IO (io), 89 VCCIO (power), 92 CLK2 (in), 95 IO (io), 96 IO (io), 97 DEV_CLRn/IO (io), 98 CS/IO (io), 99 IO (io), 100 IO (io), 101 nCS/IO (io), 102 nRS/IO (io), 103 nWS/IO (io), 104 DATA7/IO (io), 105 DATA6/IO (io), 107 IO (io), 109 DATA5/IO (io), 110 IO (io), 111 DATA4/IO (io), 112 DATA3/IO (io), 113 IO (io), 114 IO (io), 115 DATA2/IO (io), 116 VCCIO (power), 117 DATA1/IO (io), 118 IO (io), 119 CLKUSR/IO (io), 120 RDYnBSY/IO (io), 121 INIT_DONE/IO (io), 122 IO (io), 124 INPUT2 (in), 127 INPUT1 (in), 130 IO (io), 131 IO (io), 132 IO (io), 133 IO (io), 135 IO (io), 136 IO (io), 137 IO (io), 138 IO (io), 139 IO (io), 140 IO (io), 141 IO (io), 142 IO (io), 143 IO (io), 144 VCCIO (power)
part B pins: 18 MSEL0 (in), 19 MSEL1 (in), 22 nCONFIG (in), 51 TMS (in), 52 TCK (in), 57 nSTATUS (in), 58 CONF_DONE (in), 90 TDI (in), 91 nCE (in), 93 DCLK (in), 94 DATA0 (in), 123 TDO (out), 128 nCEO (out), 129 TRST (in)
part C pins: 1 VCCINT (power), 4 GNDINT (power), 12 GNDIO (power), 16 VCCINT (power), 17 GNDINT (power), 21 VCCINT (power), 34 GNDINT (power), 36 VCCINT (power), 42 GNDIO (power), 54 GNDINT (power), 55 VCCINT (power), 72 GNDIO (power), 73 VCCINT (power), 74 GNDINT (power), 77 GNDINT (power), 85 VCC_CKLK (power), 86 VCCINT (power), 87 GNDINT (power), 88 GND_CKLK (power), 106 GNDIO (power), 108 VCCINT (power), 125 VCCINT (power), 126 GNDINT (power), 134 GNDIO (power)

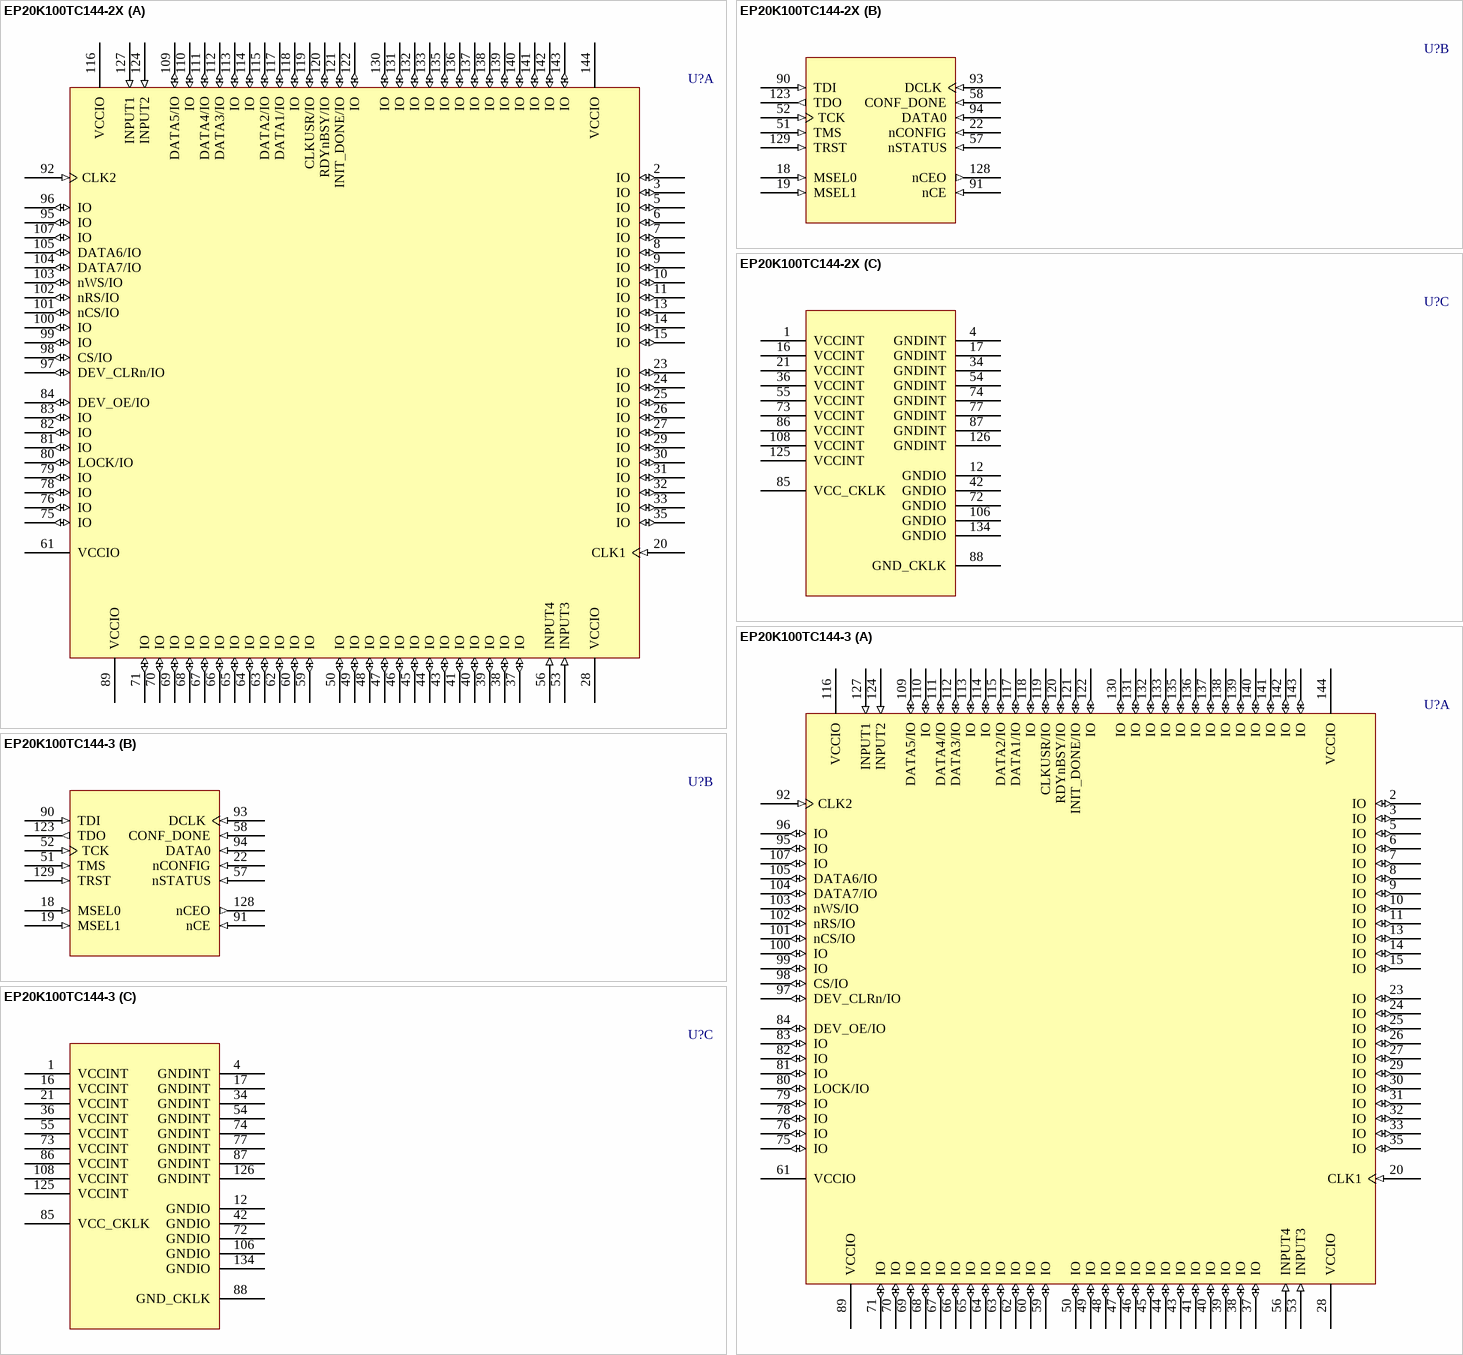
[diagram p44: symbols EP20K100TC144-2X to EP20K100TC144-3]

## EP20K100TC144-2X
designator U?
APEX 20K100 PLD with PLLs, 144-Pin TQFP, Commercial Grade, Speed Grade 2; Published: 17-Jul-2002; LatestRevisionDate: 13-Apr-2006; LatestRevisionNote: IPC-7351 Footprint Added.; DatasheetVersion: ver5.1, Mar-2004; PackageVersion: ver15.4, Dec-2008; PackageReference: TQFP144; Publisher: Altium Limited; PackageDescription: 144-Pin Plastic Thin Quad Flat Pack (TQFP144) - Wire Bond; Code_JEDEC: MS-026-BFB; ComponentLink1Description: Manufacturer Link; ComponentLink1URL: http://www.altera.com/products/devices/apex/apx-index.html; ComponentLink2Description: Datasheet; ComponentLink2URL: http://www.altera.com/literature/ds/apex.pdf
footprint TQFP144_N (Thin QFP, 144-Leads, Body 20x20mm, Pitch 0.5mm, IPC Medium Density)
footprint TQFP144_L (Thin QFP, 144-Leads, Body 20x20mm, Pitch 0.5mm, IPC High Density)
footprint TQFP144_M (Thin QFP, 144-Leads, Body 20x20mm, Pitch 0.5mm, IPC Low Density)
3D model EP20K100-TQFP144 (144-Pin Plastic Thin Quad Flat Pack (TQFP144) - Wire Bond)
part A pins: 2 IO (io), 3 IO (io), 5 IO (io), 6 IO (io), 7 IO (io), 8 IO (io), 9 IO (io), 10 IO (io), 11 IO (io), 13 IO (io), 14 IO (io), 15 IO (io), 20 CLK1 (in), 23 IO (io), 24 IO (io), 25 IO (io), 26 IO (io), 27 IO (io), 28 VCCIO (power), 29 IO (io), 30 IO (io), 31 IO (io), 32 IO (io), 33 IO (io), 35 IO (io), 37 IO (io), 38 IO (io), 39 IO (io), 40 IO (io), 41 IO (io), 43 IO (io), 44 IO (io), 45 IO (io), 46 IO (io), 47 IO (io), 48 IO (io), 49 IO (io), 50 IO (io), 53 INPUT3 (in), 56 INPUT4 (in), 59 IO (io), 60 IO (io), 61 VCCIO (power), 62 IO (io), 63 IO (io), 64 IO (io), 65 IO (io), 66 IO (io), 67 IO (io), 68 IO (io), 69 IO (io), 70 IO (io), 71 IO (io), 75 IO (io), 76 IO (io), 78 IO (io), 79 IO (io), 80 LOCK/IO (io), 81 IO (io), 82 IO (io), 83 IO (io), 84 DEV_OE/IO (io), 89 VCCIO (power), 92 CLK2 (in), 95 IO (io), 96 IO (io), 97 DEV_CLRn/IO (io), 98 CS/IO (io), 99 IO (io), 100 IO (io), 101 nCS/IO (io), 102 nRS/IO (io), 103 nWS/IO (io), 104 DATA7/IO (io), 105 DATA6/IO (io), 107 IO (io), 109 DATA5/IO (io), 110 IO (io), 111 DATA4/IO (io), 112 DATA3/IO (io), 113 IO (io), 114 IO (io), 115 DATA2/IO (io), 116 VCCIO (power), 117 DATA1/IO (io), 118 IO (io), 119 CLKUSR/IO (io), 120 RDYnBSY/IO (io), 121 INIT_DONE/IO (io), 122 IO (io), 124 INPUT2 (in), 127 INPUT1 (in), 130 IO (io), 131 IO (io), 132 IO (io), 133 IO (io), 135 IO (io), 136 IO (io), 137 IO (io), 138 IO (io), 139 IO (io), 140 IO (io), 141 IO (io), 142 IO (io), 143 IO (io), 144 VCCIO (power)
part B pins: 18 MSEL0 (in), 19 MSEL1 (in), 22 nCONFIG (in), 51 TMS (in), 52 TCK (in), 57 nSTATUS (in), 58 CONF_DONE (in), 90 TDI (in), 91 nCE (in), 93 DCLK (in), 94 DATA0 (in), 123 TDO (out), 128 nCEO (out), 129 TRST (in)
part C pins: 1 VCCINT (power), 4 GNDINT (power), 12 GNDIO (power), 16 VCCINT (power), 17 GNDINT (power), 21 VCCINT (power), 34 GNDINT (power), 36 VCCINT (power), 42 GNDIO (power), 54 GNDINT (power), 55 VCCINT (power), 72 GNDIO (power), 73 VCCINT (power), 74 GNDINT (power), 77 GNDINT (power), 85 VCC_CKLK (power), 86 VCCINT (power), 87 GNDINT (power), 88 GND_CKLK (power), 106 GNDIO (power), 108 VCCINT (power), 125 VCCINT (power), 126 GNDINT (power), 134 GNDIO (power)

## EP20K100TC144-3
designator U?
APEX 20K100 PLD, 144-Pin TQFP, Commercial Grade, Speed Grade 3; Published: 17-Jul-2002; LatestRevisionDate: 13-Apr-2006; LatestRevisionNote: IPC-7351 Footprint Added.; DatasheetVersion: ver5.1, Mar-2004; PackageVersion: ver15.4, Dec-2008; PackageReference: TQFP144; Publisher: Altium Limited; PackageDescription: 144-Pin Plastic Thin Quad Flat Pack (TQFP144) - Wire Bond; Code_JEDEC: MS-026-BFB; ComponentLink1Description: Manufacturer Link; ComponentLink1URL: http://www.altera.com/products/devices/apex/apx-index.html; ComponentLink2Description: Datasheet; ComponentLink2URL: http://www.altera.com/literature/ds/apex.pdf
footprint TQFP144_N (Thin QFP, 144-Leads, Body 20x20mm, Pitch 0.5mm, IPC Medium Density)
footprint TQFP144_L (Thin QFP, 144-Leads, Body 20x20mm, Pitch 0.5mm, IPC High Density)
footprint TQFP144_M (Thin QFP, 144-Leads, Body 20x20mm, Pitch 0.5mm, IPC Low Density)
3D model EP20K100-TQFP144 (144-Pin Plastic Thin Quad Flat Pack (TQFP144) - Wire Bond)
part A pins: 2 IO (io), 3 IO (io), 5 IO (io), 6 IO (io), 7 IO (io), 8 IO (io), 9 IO (io), 10 IO (io), 11 IO (io), 13 IO (io), 14 IO (io), 15 IO (io), 20 CLK1 (in), 23 IO (io), 24 IO (io), 25 IO (io), 26 IO (io), 27 IO (io), 28 VCCIO (power), 29 IO (io), 30 IO (io), 31 IO (io), 32 IO (io), 33 IO (io), 35 IO (io), 37 IO (io), 38 IO (io), 39 IO (io), 40 IO (io), 41 IO (io), 43 IO (io), 44 IO (io), 45 IO (io), 46 IO (io), 47 IO (io), 48 IO (io), 49 IO (io), 50 IO (io), 53 INPUT3 (in), 56 INPUT4 (in), 59 IO (io), 60 IO (io), 61 VCCIO (power), 62 IO (io), 63 IO (io), 64 IO (io), 65 IO (io), 66 IO (io), 67 IO (io), 68 IO (io), 69 IO (io), 70 IO (io), 71 IO (io), 75 IO (io), 76 IO (io), 78 IO (io), 79 IO (io), 80 LOCK/IO (io), 81 IO (io), 82 IO (io), 83 IO (io), 84 DEV_OE/IO (io), 89 VCCIO (power), 92 CLK2 (in), 95 IO (io), 96 IO (io), 97 DEV_CLRn/IO (io), 98 CS/IO (io), 99 IO (io), 100 IO (io), 101 nCS/IO (io), 102 nRS/IO (io), 103 nWS/IO (io), 104 DATA7/IO (io), 105 DATA6/IO (io), 107 IO (io), 109 DATA5/IO (io), 110 IO (io), 111 DATA4/IO (io), 112 DATA3/IO (io), 113 IO (io), 114 IO (io), 115 DATA2/IO (io), 116 VCCIO (power), 117 DATA1/IO (io), 118 IO (io), 119 CLKUSR/IO (io), 120 RDYnBSY/IO (io), 121 INIT_DONE/IO (io), 122 IO (io), 124 INPUT2 (in), 127 INPUT1 (in), 130 IO (io), 131 IO (io), 132 IO (io), 133 IO (io), 135 IO (io), 136 IO (io), 137 IO (io), 138 IO (io), 139 IO (io), 140 IO (io), 141 IO (io), 142 IO (io), 143 IO (io), 144 VCCIO (power)
part B pins: 18 MSEL0 (in), 19 MSEL1 (in), 22 nCONFIG (in), 51 TMS (in), 52 TCK (in), 57 nSTATUS (in), 58 CONF_DONE (in), 90 TDI (in), 91 nCE (in), 93 DCLK (in), 94 DATA0 (in), 123 TDO (out), 128 nCEO (out), 129 TRST (in)
part C pins: 1 VCCINT (power), 4 GNDINT (power), 12 GNDIO (power), 16 VCCINT (power), 17 GNDINT (power), 21 VCCINT (power), 34 GNDINT (power), 36 VCCINT (power), 42 GNDIO (power), 54 GNDINT (power), 55 VCCINT (power), 72 GNDIO (power), 73 VCCINT (power), 74 GNDINT (power), 77 GNDINT (power), 85 VCC_CKLK (power), 86 VCCINT (power), 87 GNDINT (power), 88 GND_CKLK (power), 106 GNDIO (power), 108 VCCINT (power), 125 VCCINT (power), 126 GNDINT (power), 134 GNDIO (power)

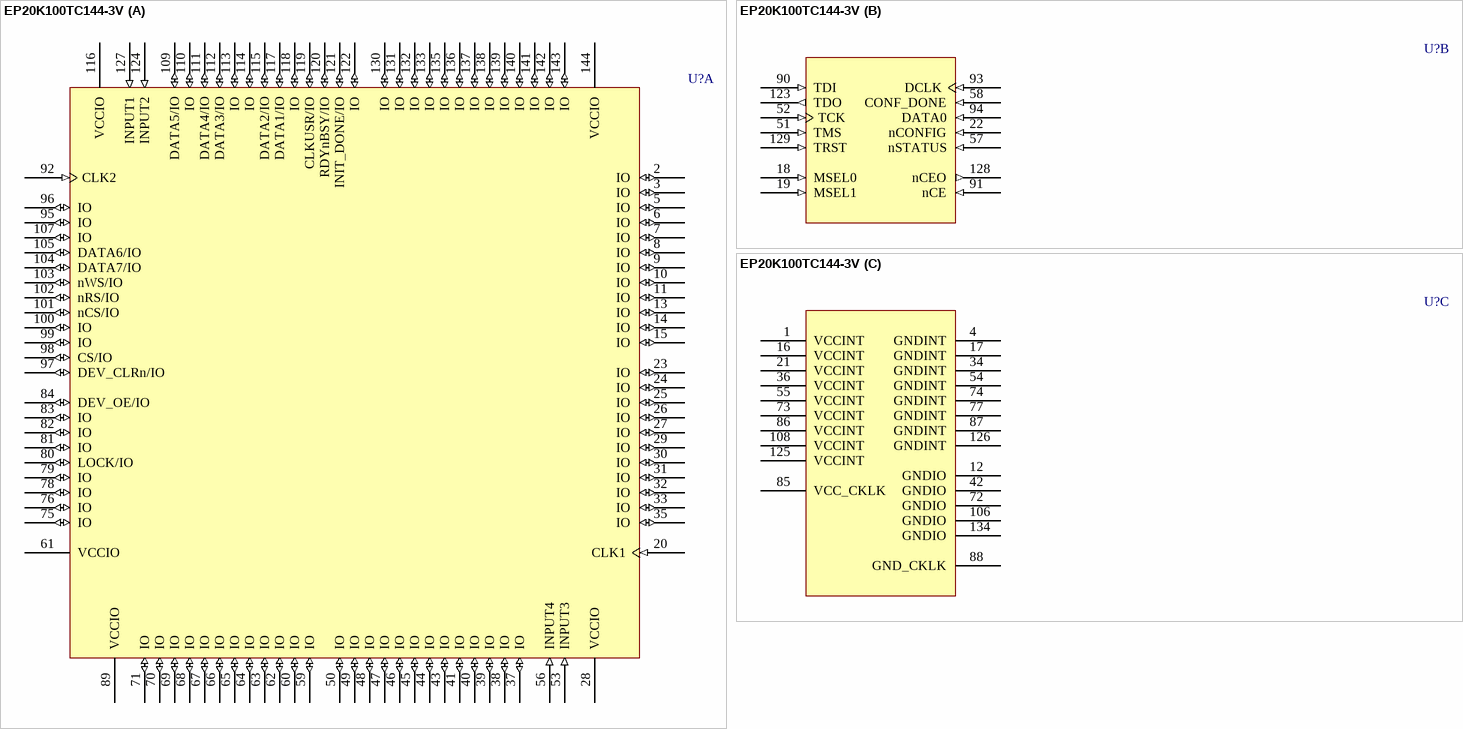
[diagram p45: symbol EP20K100TC144-3V]

## EP20K100TC144-3V
designator U?
APEX 20K100  PLD with 5 V tolerant inputs, 144-Pin TQFP, Commercial Grade, Speed Grade 3; ComponentAvailability: Last order accepted - 22-Jul-2005; Published: 17-Jul-2002; LatestRevisionDate: 13-Apr-2006; LatestRevisionNote: IPC-7351 Footprint Added.; DatasheetVersion: ver5.1, Mar-2004; PackageVersion: ver15.4, Dec-2008; PackageReference: TQFP144; Publisher: Altium Limited; PackageDescription: 144-Pin Plastic Thin Quad Flat Pack (TQFP144) - Wire Bond; Code_JEDEC: MS-026-BFB; ComponentLink1Description: Manufacturer Link; ComponentLink1URL: http://www.altera.com/products/devices/apex/apx-index.html; ComponentLink2Description: Datasheet; ComponentLink2URL: http://www.altera.com/literature/ds/apex.pdf; ComponentLink3Description: Discontinuation Notice; ComponentLink3URL: http://www.altera.com/literature/pcn/pdn0401.pdf
footprint TQFP144_N (Thin QFP, 144-Leads, Body 20x20mm, Pitch 0.5mm, IPC Medium Density)
footprint TQFP144_L (Thin QFP, 144-Leads, Body 20x20mm, Pitch 0.5mm, IPC High Density)
footprint TQFP144_M (Thin QFP, 144-Leads, Body 20x20mm, Pitch 0.5mm, IPC Low Density)
3D model EP20K100-TQFP144 (144-Pin Plastic Thin Quad Flat Pack (TQFP144) - Wire Bond)
part A pins: 2 IO (io), 3 IO (io), 5 IO (io), 6 IO (io), 7 IO (io), 8 IO (io), 9 IO (io), 10 IO (io), 11 IO (io), 13 IO (io), 14 IO (io), 15 IO (io), 20 CLK1 (in), 23 IO (io), 24 IO (io), 25 IO (io), 26 IO (io), 27 IO (io), 28 VCCIO (power), 29 IO (io), 30 IO (io), 31 IO (io), 32 IO (io), 33 IO (io), 35 IO (io), 37 IO (io), 38 IO (io), 39 IO (io), 40 IO (io), 41 IO (io), 43 IO (io), 44 IO (io), 45 IO (io), 46 IO (io), 47 IO (io), 48 IO (io), 49 IO (io), 50 IO (io), 53 INPUT3 (in), 56 INPUT4 (in), 59 IO (io), 60 IO (io), 61 VCCIO (power), 62 IO (io), 63 IO (io), 64 IO (io), 65 IO (io), 66 IO (io), 67 IO (io), 68 IO (io), 69 IO (io), 70 IO (io), 71 IO (io), 75 IO (io), 76 IO (io), 78 IO (io), 79 IO (io), 80 LOCK/IO (io), 81 IO (io), 82 IO (io), 83 IO (io), 84 DEV_OE/IO (io), 89 VCCIO (power), 92 CLK2 (in), 95 IO (io), 96 IO (io), 97 DEV_CLRn/IO (io), 98 CS/IO (io), 99 IO (io), 100 IO (io), 101 nCS/IO (io), 102 nRS/IO (io), 103 nWS/IO (io), 104 DATA7/IO (io), 105 DATA6/IO (io), 107 IO (io), 109 DATA5/IO (io), 110 IO (io), 111 DATA4/IO (io), 112 DATA3/IO (io), 113 IO (io), 114 IO (io), 115 DATA2/IO (io), 116 VCCIO (power), 117 DATA1/IO (io), 118 IO (io), 119 CLKUSR/IO (io), 120 RDYnBSY/IO (io), 121 INIT_DONE/IO (io), 122 IO (io), 124 INPUT2 (in), 127 INPUT1 (in), 130 IO (io), 131 IO (io), 132 IO (io), 133 IO (io), 135 IO (io), 136 IO (io), 137 IO (io), 138 IO (io), 139 IO (io), 140 IO (io), 141 IO (io), 142 IO (io), 143 IO (io), 144 VCCIO (power)
part B pins: 18 MSEL0 (in), 19 MSEL1 (in), 22 nCONFIG (in), 51 TMS (in), 52 TCK (in), 57 nSTATUS (in), 58 CONF_DONE (in), 90 TDI (in), 91 nCE (in), 93 DCLK (in), 94 DATA0 (in), 123 TDO (out), 128 nCEO (out), 129 TRST (in)
part C pins: 1 VCCINT (power), 4 GNDINT (power), 12 GNDIO (power), 16 VCCINT (power), 17 GNDINT (power), 21 VCCINT (power), 34 GNDINT (power), 36 VCCINT (power), 42 GNDIO (power), 54 GNDINT (power), 55 VCCINT (power), 72 GNDIO (power), 73 VCCINT (power), 74 GNDINT (power), 77 GNDINT (power), 85 VCC_CKLK (power), 86 VCCINT (power), 87 GNDINT (power), 88 GND_CKLK (power), 106 GNDIO (power), 108 VCCINT (power), 125 VCCINT (power), 126 GNDINT (power), 134 GNDIO (power)

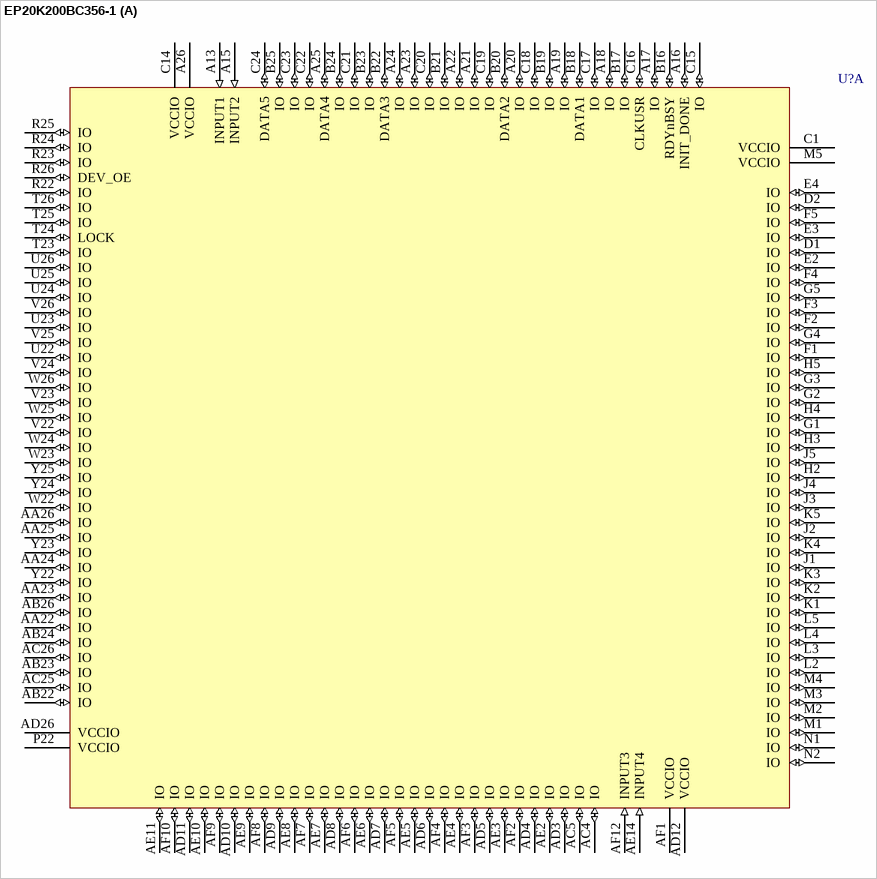
[diagram p46: symbol EP20K200BC356-1]

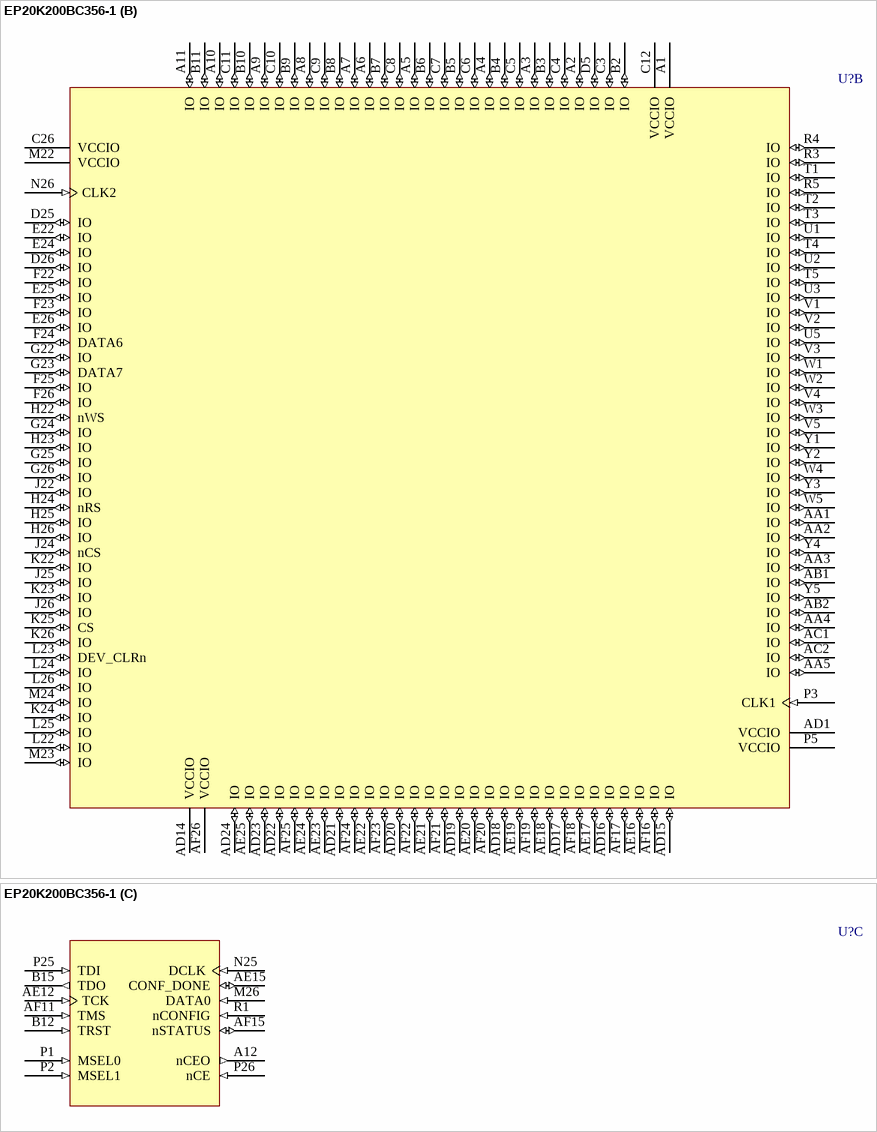
[diagram p47: symbol EP20K200BC356-1]

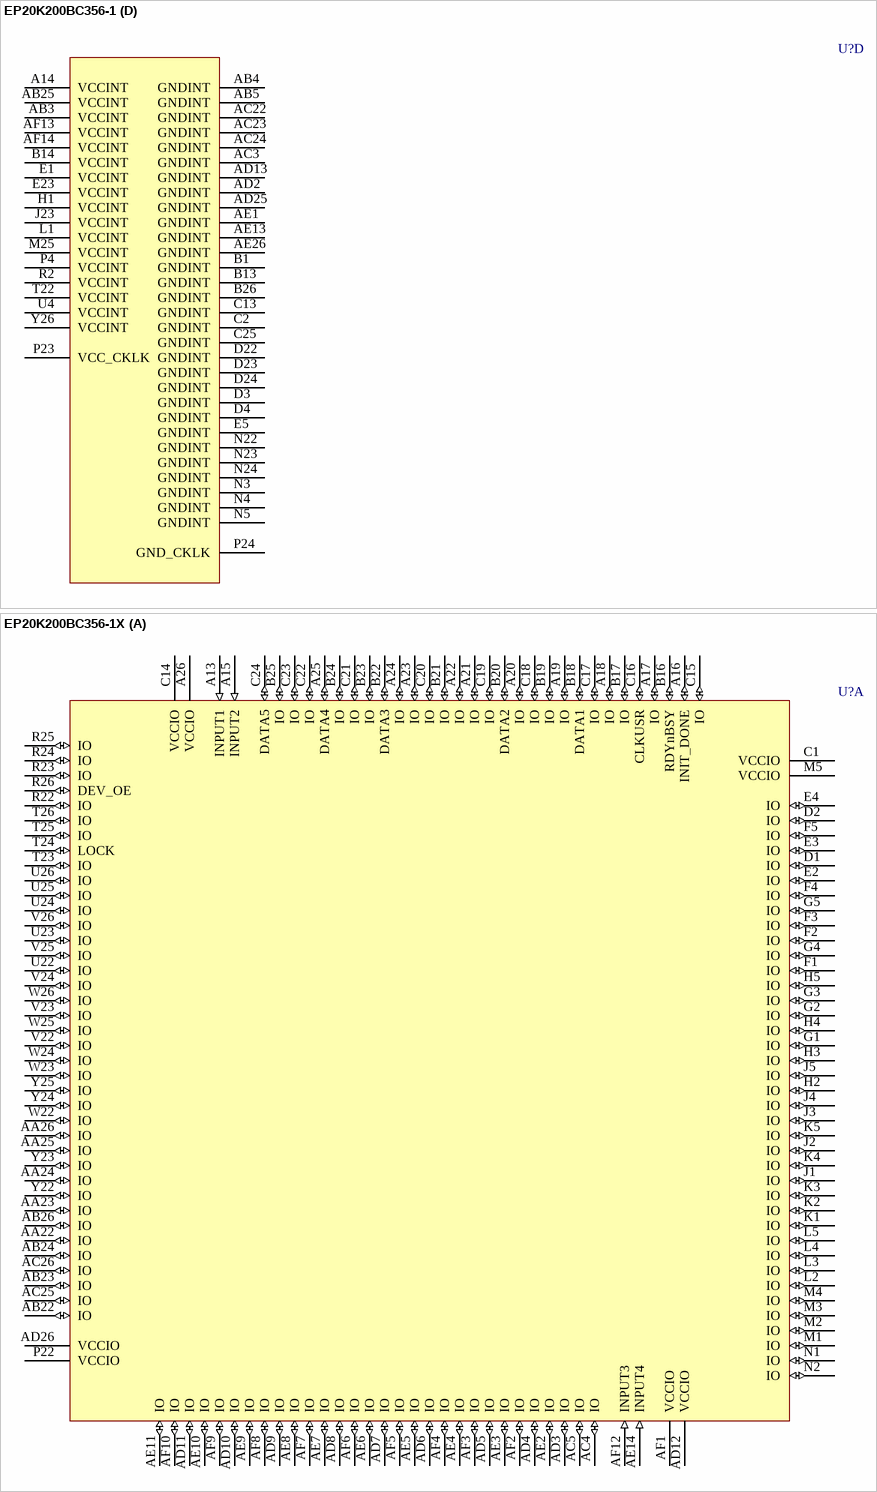
[diagram p48: symbols EP20K200BC356-1 to EP20K200BC356-1X]

## EP20K200BC356-1
designator U?
APEX 20K200 PLD, 356-Pin BGA, Commercial Grade, Speed Grade 1; Published: 17-Jul-2002; LatestRevisionDate: 13-Apr-2006; LatestRevisionNote: IPC-7351 Footprint Added.; DatasheetVersion: ver5.1, Mar-2004; PackageVersion: ver14.2, Oct-2005; PackageReference: BGA356; Publisher: Altium Limited; PackageDescription: 356-Ball Ball Grid Array (BGA356); Code_JEDEC: MO-192-BAR-2; ComponentLink1Description: Manufacturer Link; ComponentLink1URL: http://www.altera.com/products/devices/apex/apx-index.html; ComponentLink2Description: Datasheet; ComponentLink2URL: http://www.altera.com/literature/ds/apex.pdf
footprint BGA356 (BGA, 356-Leads, Body 35x35mm, Pitch 1.27mm)
3D model EP20K200-BGA356 (356-Ball Ball Grid Array (BGA356))
part A pins: A13 INPUT1 (in), A15 INPUT2 (in), A16 INIT_DONE (io), A17 IO (io), A18 IO (io), A19 IO (io), A20 IO (io), A21 IO (io), A22 IO (io), A23 IO (io), A24 IO (io), A25 DATA4 (io), A26 VCCIO (power), AA22 IO (io), AA23 IO (io), AA24 IO (io), AA25 IO (io), AA26 IO (io), AB22 IO (io), AB23 IO (io), AB24 IO (io), AB26 IO (io), AC4 IO (io), AC5 IO (io), AC25 IO (io), AC26 IO (io), AD3 IO (io), AD4 IO (io), AD5 IO (io), AD6 IO (io), AD7 IO (io), AD8 IO (io), AD9 IO (io), AD10 IO (io), AD11 IO (io), AD12 VCCIO (power), AD26 VCCIO (power), AE2 IO (io), AE3 IO (io), AE4 IO (io), AE5 IO (io), AE6 IO (io), AE7 IO (io), AE8 IO (io), AE9 IO (io), AE10 IO (io), AE11 IO (io), AE14 INPUT4 (in), AF1 VCCIO (power), AF2 IO (io), AF3 IO (io), AF4 IO (io), AF5 IO (io), AF6 IO (io), AF7 IO (io), AF8 IO (io), AF9 IO (io), AF10 IO (io), AF12 INPUT3 (in), B16 RDYnBSY (io), B17 IO (io), B18 DATA1 (io), B19 IO (io), B20 DATA2 (io), B21 IO (io), B22 DATA3 (io), B23 IO (io), B24 IO (io), B25 IO (io), C1 VCCIO (power), C14 VCCIO (power), C15 IO (io), C16 CLKUSR (io), C17 IO (io), C18 IO (io), C19 IO (io), C20 IO (io), C21 IO (io), C22 IO (io), C23 IO (io), C24 DATA5 (io), D1 IO (io), D2 IO (io), E2 IO (io), E3 IO (io), E4 IO (io), F1 IO (io), F2 IO (io), F3 IO (io), F4 IO (io), F5 IO (io), G1 IO (io), G2 IO (io), G3 IO (io), G4 IO (io), G5 IO (io), H2 IO (io), H3 IO (io), H4 IO (io), H5 IO (io), J1 IO (io), J2 IO (io), J3 IO (io), J4 IO (io), J5 IO (io), K1 IO (io), K2 IO (io), K3 IO (io), K4 IO (io), K5 IO (io), L2 IO (io), L3 IO (io), L4 IO (io), L5 IO (io), M1 IO (io), M2 IO (io), M3 IO (io), M4 IO (io), M5 VCCIO (power), N1 IO (io), N2 IO (io), P22 VCCIO (power), R22 IO (io), R23 IO (io), R24 IO (io), R25 IO (io), R26 DEV_OE (io), T23 IO (io), T24 LOCK (io), T25 IO (io), T26 IO (io), U22 IO (io), U23 IO (io), U24 IO (io), U25 IO (io), U26 IO (io), V22 IO (io), V23 IO (io), V24 IO (io), V25 IO (io), V26 IO (io), W22 IO (io), W23 IO (io), W24 IO (io), W25 IO (io), W26 IO (io), Y22 IO (io), Y23 IO (io), Y24 IO (io), Y25 IO (io)
part B pins: A1 VCCIO (power), A2 IO (io), A3 IO (io), A4 IO (io), A5 IO (io), A6 IO (io), A7 IO (io), A8 IO (io), A9 IO (io), A10 IO (io), A11 IO (io), AA1 IO (io), AA2 IO (io), AA3 IO (io), AA4 IO (io), AA5 IO (io), AB1 IO (io), AB2 IO (io), AC1 IO (io), AC2 IO (io), AD1 VCCIO (power), AD14 VCCIO (power), AD15 IO (io), AD16 IO (io), AD17 IO (io), AD18 IO (io), AD19 IO (io), AD20 IO (io), AD21 IO (io), AD22 IO (io), AD23 IO (io), AD24 IO (io), AE16 IO (io), AE17 IO (io), AE18 IO (io), AE19 IO (io), AE20 IO (io), AE21 IO (io), AE22 IO (io), AE23 IO (io), AE24 IO (io), AE25 IO (io), AF16 IO (io), AF17 IO (io), AF18 IO (io), AF19 IO (io), AF20 IO (io), AF21 IO (io), AF22 IO (io), AF23 IO (io), AF24 IO (io), AF25 IO (io), AF26 VCCIO (power), B2 IO (io), B3 IO (io), B4 IO (io), B5 IO (io), B6 IO (io), B7 IO (io), B8 IO (io), B9 IO (io), B10 IO (io), B11 IO (io), C3 IO (io), C4 IO (io), C5 IO (io), C6 IO (io), C7 IO (io), C8 IO (io), C9 IO (io), C10 IO (io), C11 IO (io), C12 VCCIO (power), C26 VCCIO (power), D5 IO (io), D25 IO (io), D26 IO (io), E22 IO (io), E24 IO (io), E25 IO (io), E26 IO (io), F22 IO (io), F23 IO (io), F24 DATA6 (io), F25 IO (io), F26 IO (io), G22 IO (io), G23 DATA7 (io), G24 IO (io), G25 IO (io), G26 IO (io), H22 nWS (io), H23 IO (io), H24 nRS (io), H25 IO (io), H26 IO (io), J22 IO (io), J24 nCS (io), J25 IO (io), J26 IO (io), K22 IO (io), K23 IO (io), K24 IO (io), K25 CS (io), K26 IO (io), L22 IO (io), L23 DEV_CLRn (io), L24 IO (io), L25 IO (io), L26 IO (io), M22 VCCIO (power), M23 IO (io), M24 IO (io), N26 CLK2 (in), P3 CLK1 (in), P5 VCCIO (power), R3 IO (io), R4 IO (io), R5 IO (io), T1 IO (io), T2 IO (io), T3 IO (io), T4 IO (io), T5 IO (io), U1 IO (io), U2 IO (io), U3 IO (io), U5 IO (io), V1 IO (io), V2 IO (io), V3 IO (io), V4 IO (io), V5 IO (io), W1 IO (io), W2 IO (io), W3 IO (io), W4 IO (io), W5 IO (io), Y1 IO (io), Y2 IO (io), Y3 IO (io), Y4 IO (io), Y5 IO (io)
part C pins: A12 nCEO (out), AE12 TCK (in), AE15 CONF_DONE (io), AF11 TMS (in), AF15 nSTATUS (io), B12 TRST (in), B15 TDO (out), M26 DATA0 (in), N25 DCLK (in), P1 MSEL0 (in), P2 MSEL1 (in), P25 TDI (in), P26 nCE (in), R1 nCONFIG (in)
part D pins: A14 VCCINT (power), AB3 VCCINT (power), AB4 GNDINT (power), AB5 GNDINT (power), AB25 VCCINT (power), AC3 GNDINT (power), AC22 GNDINT (power), AC23 GNDINT (power), AC24 GNDINT (power), AD2 GNDINT (power), AD13 GNDINT (power), AD25 GNDINT (power), AE1 GNDINT (power), AE13 GNDINT (power), AE26 GNDINT (power), AF13 VCCINT (power), AF14 VCCINT (power), B1 GNDINT (power), B13 GNDINT (power), B14 VCCINT (power), B26 GNDINT (power), C2 GNDINT (power), C13 GNDINT (power), C25 GNDINT (power), D3 GNDINT (power), D4 GNDINT (power), D22 GNDINT (power), D23 GNDINT (power), D24 GNDINT (power), E1 VCCINT (power), E5 GNDINT (power), E23 VCCINT (power), H1 VCCINT (power), J23 VCCINT (power), L1 VCCINT (power), M25 VCCINT (power), N3 GNDINT (power), N4 GNDINT (power), N5 GNDINT (power), N22 GNDINT (power), N23 GNDINT (power), N24 GNDINT (power), P4 VCCINT (power), P23 VCC_CKLK (power), P24 GND_CKLK (power), R2 VCCINT (power), T22 VCCINT (power), U4 VCCINT (power), Y26 VCCINT (power)

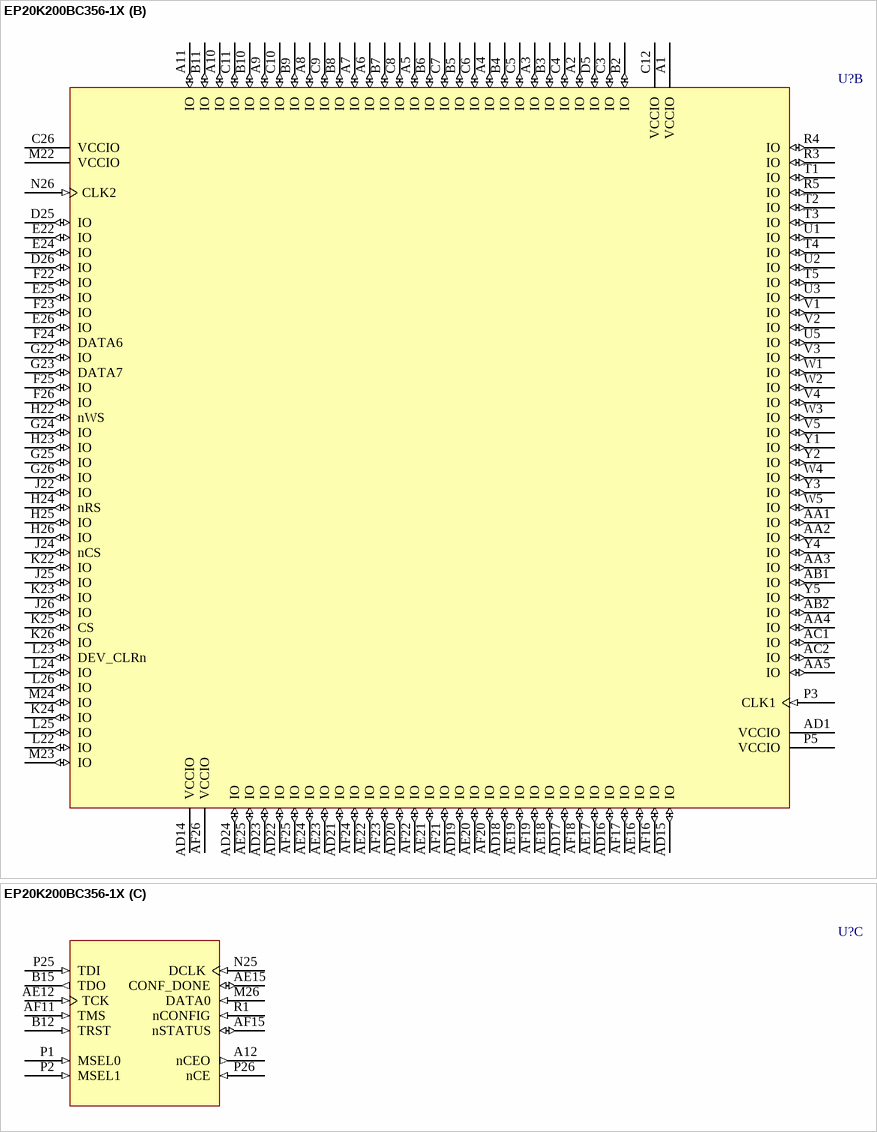
[diagram p49: symbol EP20K200BC356-1X]

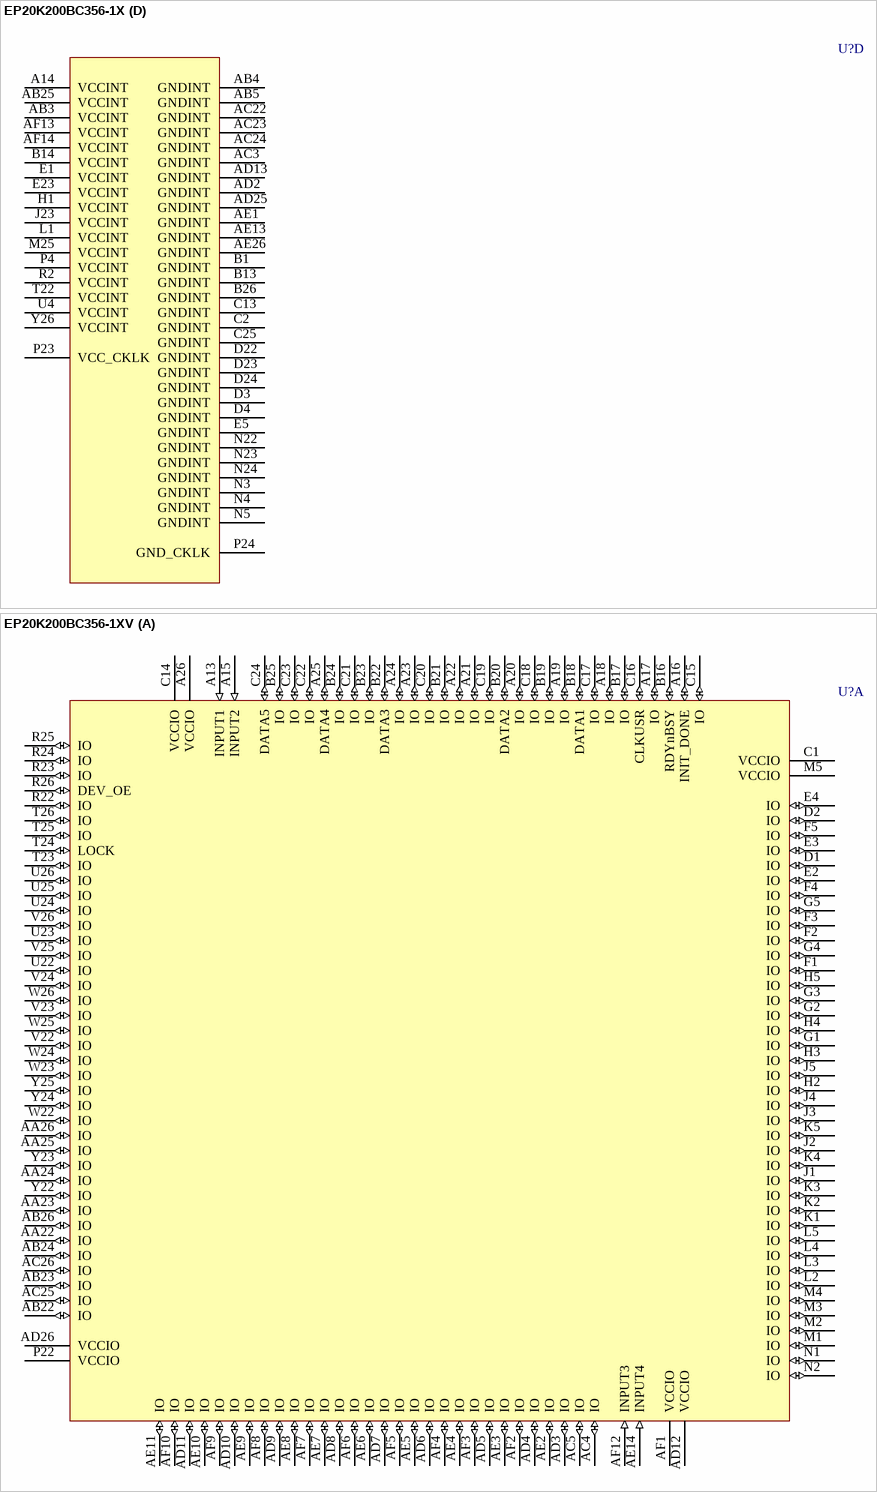
[diagram p50: symbols EP20K200BC356-1X to EP20K200BC356-1XV]

## EP20K200BC356-1X
designator U?
APEX 20K200 PLD with PLLs, 356-Pin BGA, Commercial Grade, Speed Grade 1; Published: 17-Jul-2002; LatestRevisionDate: 13-Apr-2006; LatestRevisionNote: IPC-7351 Footprint Added.; DatasheetVersion: ver5.1, Mar-2004; PackageVersion: ver14.2, Oct-2005; PackageReference: BGA356; Publisher: Altium Limited; PackageDescription: 356-Ball Ball Grid Array (BGA356); Code_JEDEC: MO-192-BAR-2; ComponentLink1Description: Manufacturer Link; ComponentLink1URL: http://www.altera.com/products/devices/apex/apx-index.html; ComponentLink2Description: Datasheet; ComponentLink2URL: http://www.altera.com/literature/ds/apex.pdf
footprint BGA356 (BGA, 356-Leads, Body 35x35mm, Pitch 1.27mm)
3D model EP20K200-BGA356 (356-Ball Ball Grid Array (BGA356))
part A pins: A13 INPUT1 (in), A15 INPUT2 (in), A16 INIT_DONE (io), A17 IO (io), A18 IO (io), A19 IO (io), A20 IO (io), A21 IO (io), A22 IO (io), A23 IO (io), A24 IO (io), A25 DATA4 (io), A26 VCCIO (power), AA22 IO (io), AA23 IO (io), AA24 IO (io), AA25 IO (io), AA26 IO (io), AB22 IO (io), AB23 IO (io), AB24 IO (io), AB26 IO (io), AC4 IO (io), AC5 IO (io), AC25 IO (io), AC26 IO (io), AD3 IO (io), AD4 IO (io), AD5 IO (io), AD6 IO (io), AD7 IO (io), AD8 IO (io), AD9 IO (io), AD10 IO (io), AD11 IO (io), AD12 VCCIO (power), AD26 VCCIO (power), AE2 IO (io), AE3 IO (io), AE4 IO (io), AE5 IO (io), AE6 IO (io), AE7 IO (io), AE8 IO (io), AE9 IO (io), AE10 IO (io), AE11 IO (io), AE14 INPUT4 (in), AF1 VCCIO (power), AF2 IO (io), AF3 IO (io), AF4 IO (io), AF5 IO (io), AF6 IO (io), AF7 IO (io), AF8 IO (io), AF9 IO (io), AF10 IO (io), AF12 INPUT3 (in), B16 RDYnBSY (io), B17 IO (io), B18 DATA1 (io), B19 IO (io), B20 DATA2 (io), B21 IO (io), B22 DATA3 (io), B23 IO (io), B24 IO (io), B25 IO (io), C1 VCCIO (power), C14 VCCIO (power), C15 IO (io), C16 CLKUSR (io), C17 IO (io), C18 IO (io), C19 IO (io), C20 IO (io), C21 IO (io), C22 IO (io), C23 IO (io), C24 DATA5 (io), D1 IO (io), D2 IO (io), E2 IO (io), E3 IO (io), E4 IO (io), F1 IO (io), F2 IO (io), F3 IO (io), F4 IO (io), F5 IO (io), G1 IO (io), G2 IO (io), G3 IO (io), G4 IO (io), G5 IO (io), H2 IO (io), H3 IO (io), H4 IO (io), H5 IO (io), J1 IO (io), J2 IO (io), J3 IO (io), J4 IO (io), J5 IO (io), K1 IO (io), K2 IO (io), K3 IO (io), K4 IO (io), K5 IO (io), L2 IO (io), L3 IO (io), L4 IO (io), L5 IO (io), M1 IO (io), M2 IO (io), M3 IO (io), M4 IO (io), M5 VCCIO (power), N1 IO (io), N2 IO (io), P22 VCCIO (power), R22 IO (io), R23 IO (io), R24 IO (io), R25 IO (io), R26 DEV_OE (io), T23 IO (io), T24 LOCK (io), T25 IO (io), T26 IO (io), U22 IO (io), U23 IO (io), U24 IO (io), U25 IO (io), U26 IO (io), V22 IO (io), V23 IO (io), V24 IO (io), V25 IO (io), V26 IO (io), W22 IO (io), W23 IO (io), W24 IO (io), W25 IO (io), W26 IO (io), Y22 IO (io), Y23 IO (io), Y24 IO (io), Y25 IO (io)
part B pins: A1 VCCIO (power), A2 IO (io), A3 IO (io), A4 IO (io), A5 IO (io), A6 IO (io), A7 IO (io), A8 IO (io), A9 IO (io), A10 IO (io), A11 IO (io), AA1 IO (io), AA2 IO (io), AA3 IO (io), AA4 IO (io), AA5 IO (io), AB1 IO (io), AB2 IO (io), AC1 IO (io), AC2 IO (io), AD1 VCCIO (power), AD14 VCCIO (power), AD15 IO (io), AD16 IO (io), AD17 IO (io), AD18 IO (io), AD19 IO (io), AD20 IO (io), AD21 IO (io), AD22 IO (io), AD23 IO (io), AD24 IO (io), AE16 IO (io), AE17 IO (io), AE18 IO (io), AE19 IO (io), AE20 IO (io), AE21 IO (io), AE22 IO (io), AE23 IO (io), AE24 IO (io), AE25 IO (io), AF16 IO (io), AF17 IO (io), AF18 IO (io), AF19 IO (io), AF20 IO (io), AF21 IO (io), AF22 IO (io), AF23 IO (io), AF24 IO (io), AF25 IO (io), AF26 VCCIO (power), B2 IO (io), B3 IO (io), B4 IO (io), B5 IO (io), B6 IO (io), B7 IO (io), B8 IO (io), B9 IO (io), B10 IO (io), B11 IO (io), C3 IO (io), C4 IO (io), C5 IO (io), C6 IO (io), C7 IO (io), C8 IO (io), C9 IO (io), C10 IO (io), C11 IO (io), C12 VCCIO (power), C26 VCCIO (power), D5 IO (io), D25 IO (io), D26 IO (io), E22 IO (io), E24 IO (io), E25 IO (io), E26 IO (io), F22 IO (io), F23 IO (io), F24 DATA6 (io), F25 IO (io), F26 IO (io), G22 IO (io), G23 DATA7 (io), G24 IO (io), G25 IO (io), G26 IO (io), H22 nWS (io), H23 IO (io), H24 nRS (io), H25 IO (io), H26 IO (io), J22 IO (io), J24 nCS (io), J25 IO (io), J26 IO (io), K22 IO (io), K23 IO (io), K24 IO (io), K25 CS (io), K26 IO (io), L22 IO (io), L23 DEV_CLRn (io), L24 IO (io), L25 IO (io), L26 IO (io), M22 VCCIO (power), M23 IO (io), M24 IO (io), N26 CLK2 (in), P3 CLK1 (in), P5 VCCIO (power), R3 IO (io), R4 IO (io), R5 IO (io), T1 IO (io), T2 IO (io), T3 IO (io), T4 IO (io), T5 IO (io), U1 IO (io), U2 IO (io), U3 IO (io), U5 IO (io), V1 IO (io), V2 IO (io), V3 IO (io), V4 IO (io), V5 IO (io), W1 IO (io), W2 IO (io), W3 IO (io), W4 IO (io), W5 IO (io), Y1 IO (io), Y2 IO (io), Y3 IO (io), Y4 IO (io), Y5 IO (io)
part C pins: A12 nCEO (out), AE12 TCK (in), AE15 CONF_DONE (io), AF11 TMS (in), AF15 nSTATUS (io), B12 TRST (in), B15 TDO (out), M26 DATA0 (in), N25 DCLK (in), P1 MSEL0 (in), P2 MSEL1 (in), P25 TDI (in), P26 nCE (in), R1 nCONFIG (in)
part D pins: A14 VCCINT (power), AB3 VCCINT (power), AB4 GNDINT (power), AB5 GNDINT (power), AB25 VCCINT (power), AC3 GNDINT (power), AC22 GNDINT (power), AC23 GNDINT (power), AC24 GNDINT (power), AD2 GNDINT (power), AD13 GNDINT (power), AD25 GNDINT (power), AE1 GNDINT (power), AE13 GNDINT (power), AE26 GNDINT (power), AF13 VCCINT (power), AF14 VCCINT (power), B1 GNDINT (power), B13 GNDINT (power), B14 VCCINT (power), B26 GNDINT (power), C2 GNDINT (power), C13 GNDINT (power), C25 GNDINT (power), D3 GNDINT (power), D4 GNDINT (power), D22 GNDINT (power), D23 GNDINT (power), D24 GNDINT (power), E1 VCCINT (power), E5 GNDINT (power), E23 VCCINT (power), H1 VCCINT (power), J23 VCCINT (power), L1 VCCINT (power), M25 VCCINT (power), N3 GNDINT (power), N4 GNDINT (power), N5 GNDINT (power), N22 GNDINT (power), N23 GNDINT (power), N24 GNDINT (power), P4 VCCINT (power), P23 VCC_CKLK (power), P24 GND_CKLK (power), R2 VCCINT (power), T22 VCCINT (power), U4 VCCINT (power), Y26 VCCINT (power)

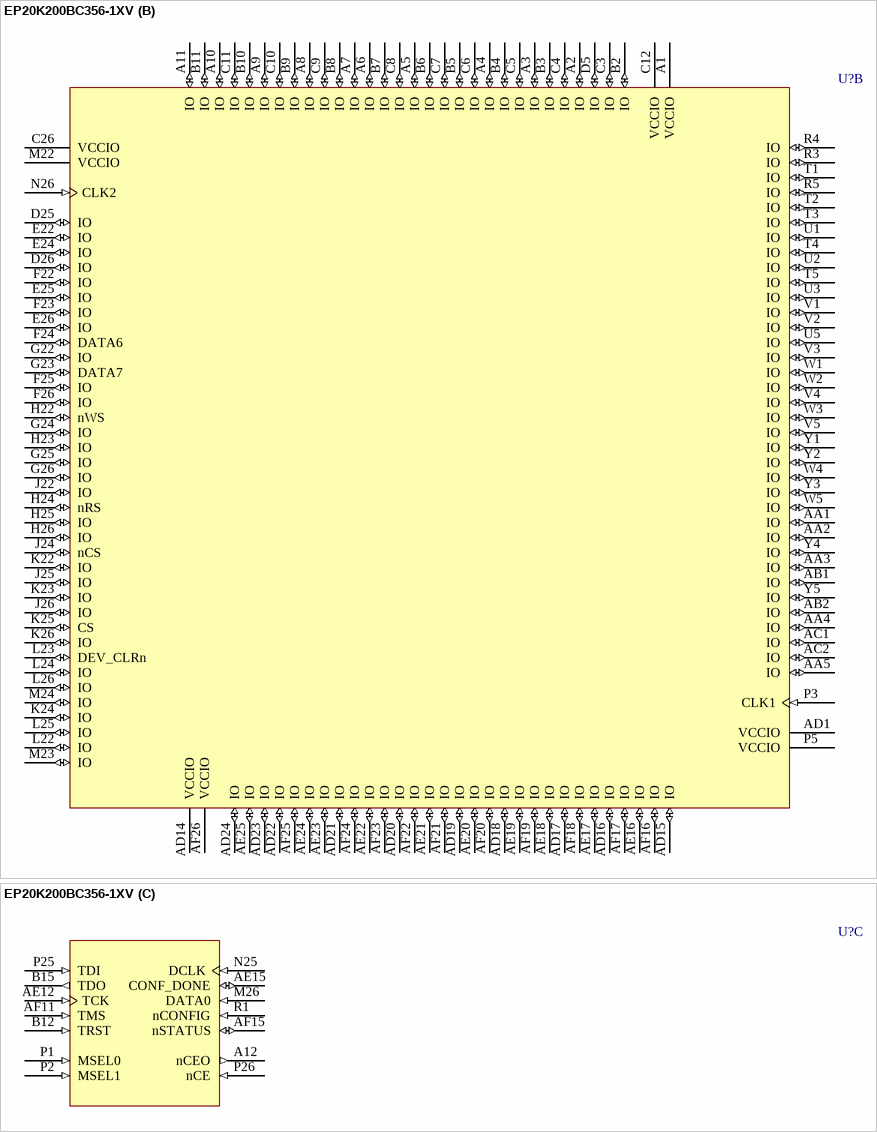
[diagram p51: symbol EP20K200BC356-1XV]

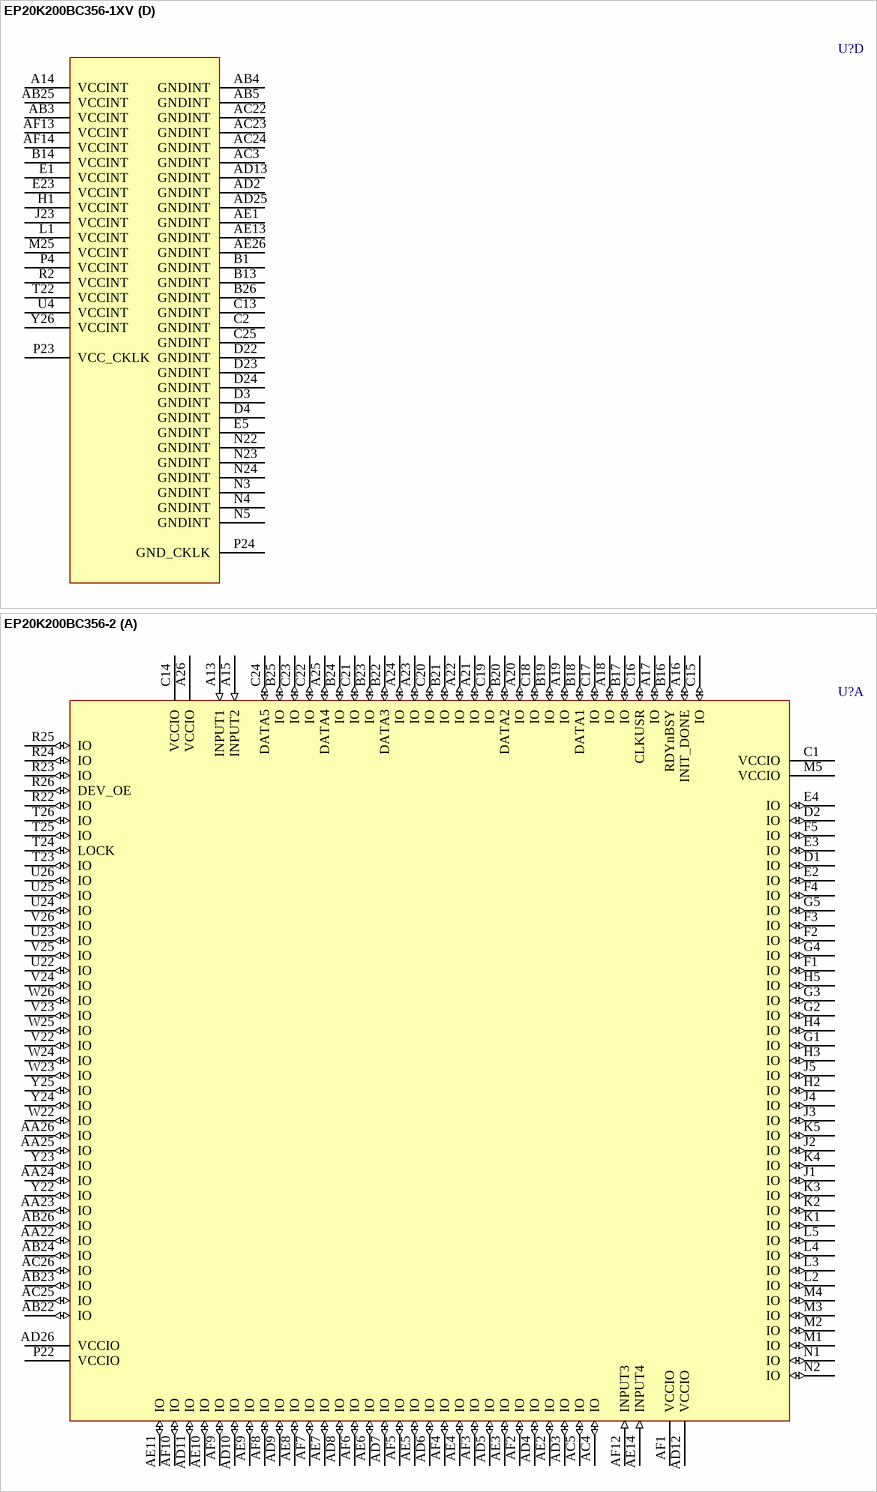
[diagram p52: symbols EP20K200BC356-1XV to EP20K200BC356-2]